# Altium schematic symbol library VC099_V13_20211125_Library.SchLib: 284 symbols (part 20 of 28)
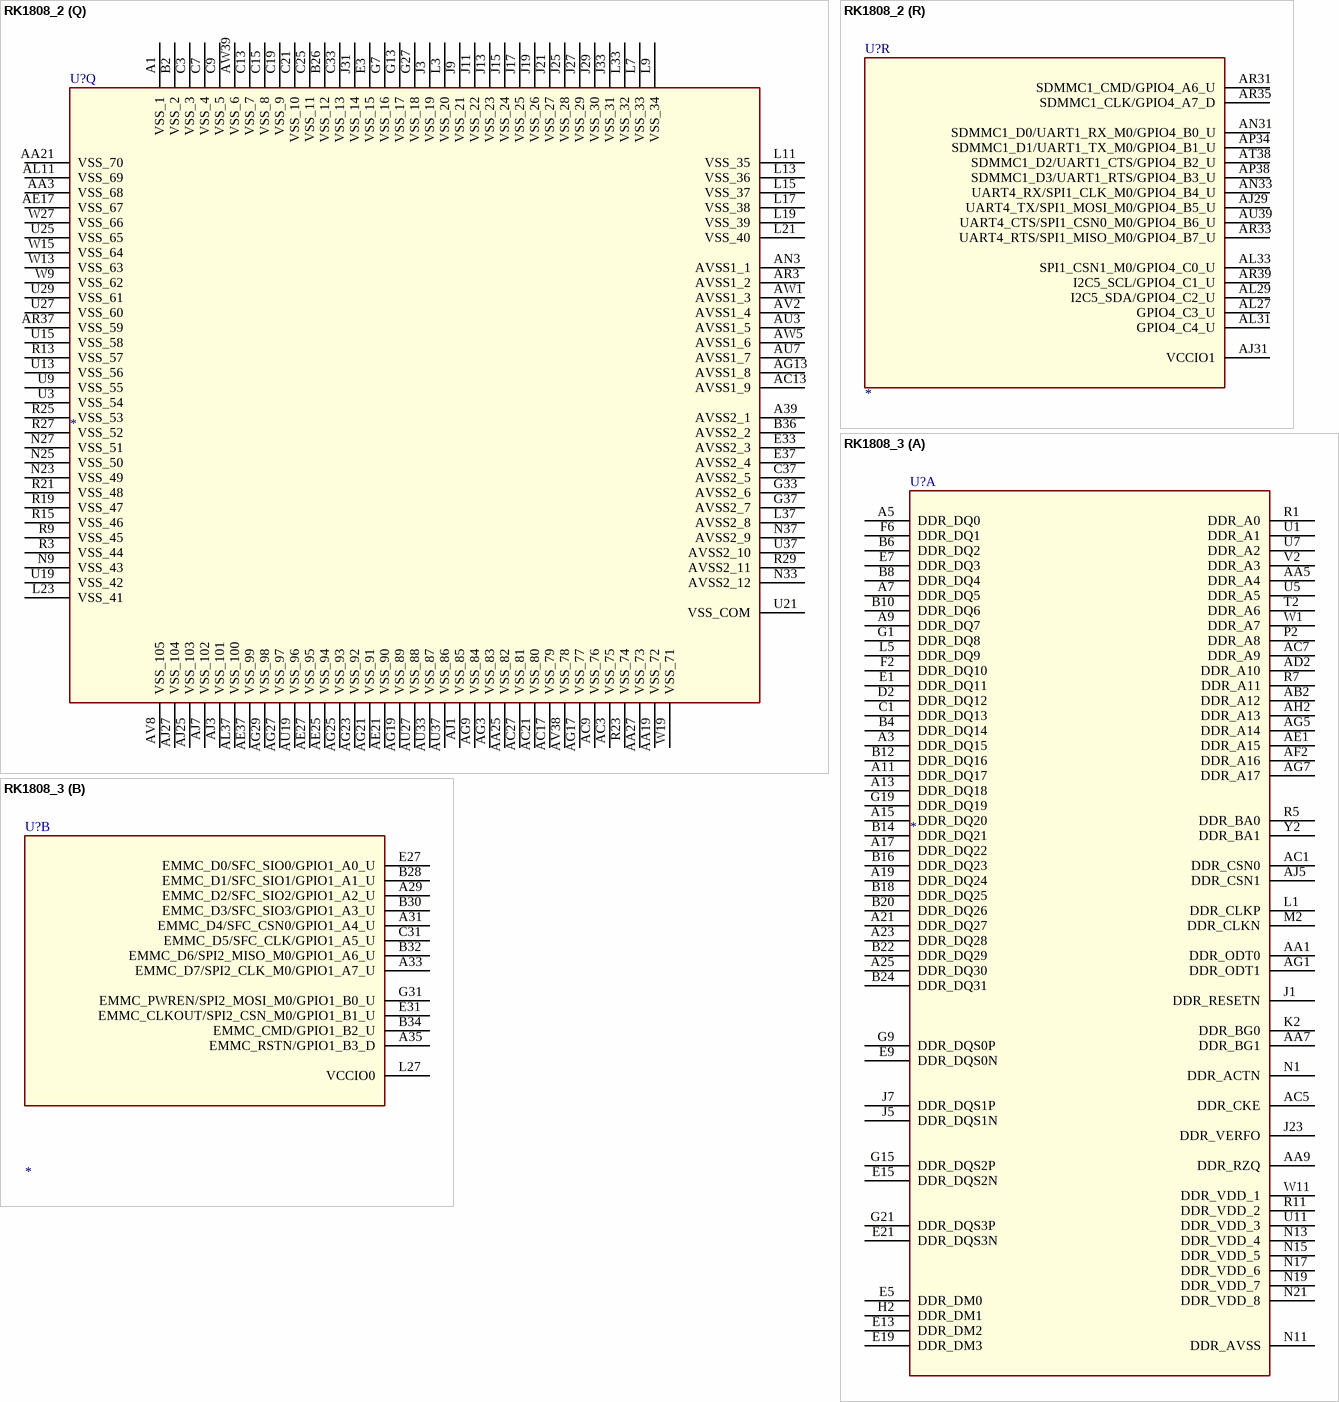
[diagram p382: symbols RK1808_2 to RK1808_3]

## RK1808_2
designator U?
SWAP_INFO: (S1+S2+S3+S4+S5+S6+S7+S8+S9+S10+S11+S12+S13+S14+S15+S16+S17+S18); SPLIT_INST: TRUE
part A pins: A3 DDR_DQ15, A5 DDR_DQ0, A7 DDR_DQ5, A9 DDR_DQ7, A11 DDR_DQ17, A13 DDR_DQ18, A15 DDR_DQ20, A17 DDR_DQ22, A19 DDR_DQ24, A21 DDR_DQ27, A23 DDR_DQ28, A25 DDR_DQ30, AA1 DDR_ODT0, AA5 DDR_A4, AA7 DDR_BG1, AA9 DDR_RZQ, AB2 DDR_A12, AC1 DDR_CSN0, AC5 DDR_CKE, AC7 DDR_A9, AD2 DDR_A10, AE1 DDR_A15, AF2 DDR_A16, AG1 DDR_ODT1, AG5 DDR_A14, AG7 DDR_A17, AH2 DDR_A13, AJ5 DDR_CSN1, B4 DDR_DQ14, B6 DDR_DQ2, B8 DDR_DQ4, B10 DDR_DQ6, B12 DDR_DQ16, B14 DDR_DQ21, B16 DDR_DQ23, B18 DDR_DQ25, B20 DDR_DQ26, B22 DDR_DQ29, B24 DDR_DQ31, C1 DDR_DQ13, D2 DDR_DQ12, E1 DDR_DQ11, E5 DDR_DM0, E7 DDR_DQ3, E9 DDR_DQS0N, E13 DDR_DM2, E15 DDR_DQS2N, E19 DDR_DM3, E21 DDR_DQS3N, F2 DDR_DQ10, F6 DDR_DQ1, G1 DDR_DQ8, G9 DDR_DQS0P, G15 DDR_DQS2P, G19 DDR_DQ19, G21 DDR_DQS3P, H2 DDR_DM1, J1 DDR_RESETN, J5 DDR_DQS1N, J7 DDR_DQS1P, J23 DDR_VERFO, K2 DDR_BG0, L1 DDR_CLKP, L5 DDR_DQ9, M2 DDR_CLKN, N1 DDR_ACTN, N11 DDR_AVSS, N13 DDR_VDD_4, N15 DDR_VDD_5, N17 DDR_VDD_6, N19 DDR_VDD_7, N21 DDR_VDD_8, P2 DDR_A8, R1 DDR_A0, R5 DDR_BA0, R7 DDR_A11, R11 DDR_VDD_2, T2 DDR_A6, U1 DDR_A1, U5 DDR_A5, U7 DDR_A2, U11 DDR_VDD_3, V2 DDR_A3, W1 DDR_A7, W11 DDR_VDD_1, Y2 DDR_BA1
part B pins: A29 EMMC_D2/SFC_SIO2/GPIO1_A2_U, A31 EMMC_D4/SFC_CSN0/GPIO1_A4_U, A33 EMMC_D7/SPI2_CLK_M0/GPIO1_A7_U, A35 EMMC_RSTN/GPIO1_B3_D, B28 EMMC_D1/SFC_SIO1/GPIO1_A1_U, B30 EMMC_D3/SFC_SIO3/GPIO1_A3_U, B32 EMMC_D6/SPI2_MISO_M0/GPIO1_A6_U, B34 EMMC_CMD/GPIO1_B2_U, C31 EMMC_D5/SFC_CLK/GPIO1_A5_U, E27 EMMC_D0/SFC_SIO0/GPIO1_A0_U, E31 EMMC_CLKOUT/SPI2_CSN_M0/GPIO1_B1_U, G31 EMMC_PWREN/SPI2_MOSI_M0/GPIO1_B0_U, L27 VCCIO0
part C pins: AA13 PLL_AVSS, AA15 PLL_AVDD_1V8, AC15 PLL_AVDD_0V8, AG11 PPLL_AVDD_0V8, AG15 OSC_VSS, AJ11 PPLL_AVDD_1V8, AJ15 OSC_VDD_1V8, AJ17 PMU_VDD_0V8, AJ19 PMUIO1_VDD_1V8, AL17 PCIE_PRSTN/GPIO0_A5_U, AN19 PCIE_BUTTONRST/GPIO0_A2_U, AR21 PCIE_WAKE/GPIO0_A7_U, AU21 TSADC_SHUT_M1/GPIO0_A1_Z, AV6 OSC_24M_OUT, AV20 SDMMC0_DETN/PCIE_REQN/GPIO0_A3_U, AV22 NPOR, AW7 OSC_24M_IN, AW17 PMIC_SLEEP/GPIO0_A4_D, AW21 TSADC_SHUT_M0/TSADC_SHUTORG/GPIO0_A6_Z, AW23 REF_CLKO/GPIO0_A0_D, AW25 OSC_BPASS
part D pins: AL15 PMUIO2_VDD, AN13 I2C1_SCL/GPIO0_C0_D, AN15 UART3_CTS/GPIO0_C6_D, AR9 DFTJTAG_TMS, AR13 UART3_RTS/GPIO0_C7_D, AR15 UART0_CTS/GPIO0_B4_U, AU9 EMMC_VOLSEL/GPIO0_B6_U, AU13 I2C0_SDA/GPIO0_B1_U, AU15 UART0_TX/GPIO0_B2_D, AV10 UART0_RTS/TEST_CLK1/GPIO0_B5_U, AV12 I2C1_SDA/GPIO0_C1_D, AV14 PWM0/OTG_DRV/GPIO0_B7_D, AV16 PWM2/GPIO0_C5_D, AV18 PWM1/UART3_TX/GPIO0_C3_D, AW9 UART0_RX/GPIO0_B3_D, AW11 PWM3/UART3_RX/GPIO0_C4_D, AW13 CLKIO_32K/GPIO0_C2_Z, AW15 DFTJTAG_TRSTN, AW19 I2C0_SCL/GPIO0_B0_U
part E pins: AC11 USB_AVDD_1V8, AE9 USB_AVDD_3V3, AE11 USB_AVDD_0V8, AJ9 USB_OTG_ID, AK2 USB_OTG_DM, AL1 USB_OTG_DP, AL9 USB_OTG_VBUS, AM2 USB_HOST_DM, AN1 USB_HOST_DP
part F pins: N31 ADC_AVDD_1V8, U31 ADC_IN1, U33 ADC_IN3, W31 ADC_IN0, W33 ADC_IN2
part G pins: A27 SPI0_MISO/I2C2_SDA_M1/UART1_TX_M1/GPIO1_B5_U, C27 SPI0_MOSI/I2C2_SCL_M1/UART1_RX_M1/GPIO1_B4_U, E25 SPI0_CLK/PWM5/GPIO1_B7_D, G25 SPI0_CSN/PWM4/GPIO1_B6_U, L25 VCCIO5
part H pins: AE31 VCCIO6, AE33 SDMMC0_D3/JTAG_TMS/GPIO4_A5_U, AE35 SDMMC0_D1/UART2_RX_M0/GPIO4_A3_U, AF38 SDMMC0_D2/JTAG_TCK/GPIO4_A4_U, AG39 SDMMC0_D0/UART2_TX_M0/GPIO4_A2_U, AH38 SDMMC0_CLK/GPIO4_A1_D, AJ39 SDMMC0_CMD/TEST_CLK0/GPIO4_A0_U
part I pins: AJ21 CIF_D15/RGMII_TXD0/LCDC_D1/GPIO2_A3_D, AJ23 VCCIO2, AL19 CIF_D14/RGMII_TXD1/LCDC_D0/GPIO2_A2_D, AL21 CIF_D3/RGMII_RXD1/SPI2_CLK_M1/GPIO2_A5_D, AL23 CIF_D11/LCDC_D3/GPIO2_C3_D, AL25 LCDC_D4/GPIO2_C4_D, AN21 CIF_D2/RGMII_RXD0/SPI2_MISO_M1/GPIO2_A4_D, AN25 CIF_D10/RGMII_RXCLK/LCDC_D2/GPIO2_C2_D, AN27 CIF_D1/RGMII_TXCLK/GPIO2_C1_D, AR19 CIF_D13/RGMII_TXEN/LCDC_D7/GPIO2_A1_D, AR25 CIF_D0/CLKOUT_ETHERNET/GPIO2_C0_D, AR27 CIF_CLKOUT/RGMII_CLK/GPIO2_B7_D, AU25 CIF_D5/RGMII_RXDV/SPI2_CSN_M1/GPIO2_A7_D, AU31 CIF_CLKIN/RGMII_RXD3/GPIO2_B6_D, AV24 CIF_D12/RGMII_CRS/LCDC_D6/GPIO2_A0_D, AV26 CIF_D4/RGMII_RXER/SPI2_MOSI_M1/GPIO2_A6_D, AV28 CIF_D9/RGMII_TXD3/LCDC_VSYNC_M0/GPIO2_B3_D, AV30 CIF_VSYNC/RGMII_TXD2/GPIO2_B4_D, AV32 CIF_HREF/RGMII_RXD2/GPIO2_B5_D, AV34 LCDC_DEN/GPIO2_C7_D, AV36 I2C3_SDA/UART2_RX_M1/GPIO2_D1_U, AW27 CIF_D7/RGMII_COL/GPIO2_B1_D, AW29 CIF_D6/RGMII_MDIO/GPIO2_B0_D, AW31 CIF_D8/RGMII_MDC/LCDC_HSYNC_M0/GPIO2_B2_D, AW33 LCDC_CLK/GPIO2_C6_D, AW35 LCDC_D5/GPIO2_C5_D, AW37 I2C3_SCL/UART2_TX_M1/GPIO2_D0_U
part J pins: AE29 VCCIO7, AG31 LCDC_D15/PWM9/SPI1_CSN0_M1/GPIO3_D1_D, AJ33 LCDC_D11/UART6_RX/GPIO3_C5_D, AJ35 LCDC_D14/PWM8/SPI1_MOSI_M1/GPIO3_D0_D, AJ37 LCDC_D17/PWM11/SPI1_CSN1_M1/GPIO3_D3_D, AK38 LCDC_D16/PWM10/SPI1_MISO_M1/GPIO3_D2_D, AL35 LCDC_D13/UART7_RX/SPI1_CLK_M1/GPIO3_C7_D, AL39 LCDC_D10/UART6_TX/GPIO3_C4_D, AM38 LCDC_D9/UART5_RX/I2C4_SDA/GPIO3_C3_D, AN37 LCDC_D8/UART5_TX/I2C4_SCL/GPIO3_C2_D, AN39 LCDC_D12/UART7_TX/GPIO3_C6_D
part K pins: AA29 VCCIO4, AA31 I2S0_SDI3/PDM_SDI3/GPIO3_A5_D, AA39 I2S0_SDI0/PDM_SDI0/GPIO3_C1_D, AB38 I2S0_LRCK_RX/PDM_CLK1/GPIO3_B1_D, AC29 I2S0_SDI1/PDM_SDI1/GPIO3_A7_D, AC31 I2S0_SDO2/I2C2_SCL_M0/LCDC_VSYNC_M1/GPIO3_B3_D, AC33 I2S0_SDO3/ISP_FLASHTRIGIN/LCDC_HSYNC_M1/GPIO3_B2_D, AC35 I2S0_SDO1/I2C2_SDA_M0/GPIO3_B4_D, AC37 I2S0_SDO0/ISP_SHUTTERTRIG/GPIO3_C0_D, AC39 I2S0_MCLK/ISP_SHUTTEREN/GPIO3_B5_D, AD38 I2S0_SCLK_TX/ISP_PRELIGHTTRIG/GPIO3_B7_D, AE39 I2S0_LRCK_TX/ISP_FLASHTRIGOUT/GPIO3_B6_D, W35 I2S0_SDI2/PDM_SDI2/GPIO3_A6_D, Y38 I2S0_SCLK_RX/PDM_CLK0/GPIO3_B0_D
part L pins: U35 I2S1_MCLK/PWM7/GPIO3_A2_D, U39 I2S1_LRCK/GPIO3_A0_D, V38 I2S1_SCLK/PWM6/GPIO3_A1_D, W29 VCCIO3, W37 I2S1_SDO/UART2_TX_M2/GPIO3_A3_D, W39 I2S1_SDI/UART2_RX_M2/GPIO3_A4_D
part M pins: AE13 PICE_VCCD_0V8, AE15 PICE_VCCA_0V8, AJ13 PICE_VDDREF_0V8, AL13 PICE_VCCA_1V8, AN5 PCIE_REFCLKP, AN7 PCIE_REFCLKN, AN9 PCIE_RBIAS, AP2 PCIE_RX0N, AR1 PCIE_RX0P, AR5 PCIE_TX1P, AR7 PCIE_TX1N, AT2 PCIE_TX0N, AU1 PCIE_TX0P, AV4 PCIE_RX1N, AW3 PCIE_RX1P
part N pins: J39 DPHY_RX_D1N, K38 DPHY_RX_D1P, L29 DPHY_RX_AVDD_1V8, L35 DPHY_RX_D0P, L39 DPHY_RX_CLKN, M38 DPHY_RX_CLKP, N35 DPHY_RX_D0N, N39 DPHY_RX_D2N, P38 DPHY_RX_D2P, R31 DPHY_RX_AVDD_0V8, R39 DPHY_RX_D3N, T38 DPHY_RX_D3P
part O pins: A37 DPHY_TX_D0N, B38 DPHY_TX_D0P, C39 DPHY_TX_D1N, D38 DPHY_TX_D1P, E35 DPHY_TX_CLKP, E39 DPHY_TX_D2N, F38 DPHY_TX_D2P, G35 DPHY_TX_CLKN, G39 DPHY_TX_D3N, H38 DPHY_TX_D3P, L31 DPHY_TX_AVDD_1V8, N29 DPHY_TX_AVDD_0V8
part P pins: AA11 EFUSE_VQPS, AA17 LOGIC_VDD_4, AA23 NPU_VDD_5, AC19 ARM_VDD_1, AC23 NPU_VDD_6, AC25 NPU_VDD_4, AE19 ARM_VDD_2, AE23 NPU_VDD_7, R17 LOGIC_VDD_1, U17 LOGIC_VDD_2, U23 NPU_VDD_1, W17 LOGIC_VDD_3, W21 NPU_VDD_COM, W23 NPU_VDD_2, W25 NPU_VDD_3
part Q pins: A1 VSS_1, A39 AVSS2_1, AA3 VSS_68, AA19 VSS_72, AA21 VSS_70, AA25 VSS_82, AA27 VSS_73, AC3 VSS_75, AC9 VSS_76, AC13 AVSS1_9, AC17 VSS_79, AC21 VSS_80, AC27 VSS_81, AE17 VSS_67, AE21 VSS_90, AE25 VSS_94, AE27 VSS_95, AE37 VSS_99, AG3 VSS_83, AG9 VSS_84, AG13 AVSS1_8, AG17 VSS_77, AG19 VSS_89, AG21 VSS_91, AG23 VSS_92, AG25 VSS_93, AG27 VSS_97, AG29 VSS_98, AJ1 VSS_85, AJ3 VSS_101, AJ7 VSS_102, AJ25 VSS_103, AJ27 VSS_104, AL11 VSS_69, AL37 VSS_100, AN3 AVSS1_1, AR3 AVSS1_2, AR37 VSS_59, AU3 AVSS1_5, AU7 AVSS1_7, AU19 VSS_96, AU27 VSS_88, AU33 VSS_87, AU37 VSS_86, AV2 AVSS1_4, AV8 VSS_105, AV38 VSS_78, AW1 AVSS1_3, AW5 AVSS1_6, AW39 VSS_6, B2 VSS_2, B26 VSS_12, B36 AVSS2_2, C3 VSS_3, C7 VSS_4, C9 VSS_5, C13 VSS_7, C15 VSS_8, C19 VSS_9, C21 VSS_10, C25 VSS_11, C33 VSS_13, C37 AVSS2_5, E3 VSS_15, E33 AVSS2_3, E37 AVSS2_4, G7 VSS_16, G13 VSS_17, G27 VSS_18, G33 AVSS2_6, G37 AVSS2_7, J3 VSS_19, J9 VSS_21, J11 VSS_22, J13 VSS_23, J15 VSS_24, J17 VSS_25, J19 VSS_26, J21 VSS_27, J25 VSS_28, J27 VSS_29, J29 VSS_30, J31 VSS_14, J33 VSS_31, L3 VSS_20, L7 VSS_33, L9 VSS_34, L11 VSS_35, L13 VSS_36, L15 VSS_37, L17 VSS_38, L19 VSS_39, L21 VSS_40, L23 VSS_41, L33 VSS_32, L37 AVSS2_8, N9 VSS_43, N23 VSS_49, N25 VSS_50, N27 VSS_51, N33 AVSS2_12, N37 AVSS2_9, R3 VSS_44, R9 VSS_45, R13 VSS_57, R15 VSS_46, R19 VSS_47, R21 VSS_48, R23 VSS_74, R25 VSS_53, R27 VSS_52, R29 AVSS2_11, U3 VSS_54, U9 VSS_55, U13 VSS_56, U15 VSS_58, U19 VSS_42, U21 VSS_COM, U25 VSS_65, U27 VSS_60, U29 VSS_61, U37 AVSS2_10, W9 VSS_62, W13 VSS_63, W15 VSS_64, W19 VSS_71, W27 VSS_66
part R pins: AJ29 UART4_TX/SPI1_MOSI_M0/GPIO4_B5_U, AJ31 VCCIO1, AL27 GPIO4_C3_U, AL29 I2C5_SDA/GPIO4_C2_U, AL31 GPIO4_C4_U, AL33 SPI1_CSN1_M0/GPIO4_C0_U, AN31 SDMMC1_D0/UART1_RX_M0/GPIO4_B0_U, AN33 UART4_RX/SPI1_CLK_M0/GPIO4_B4_U, AP34 SDMMC1_D1/UART1_TX_M0/GPIO4_B1_U, AP38 SDMMC1_D3/UART1_RTS/GPIO4_B3_U, AR31 SDMMC1_CMD/GPIO4_A6_U, AR33 UART4_RTS/SPI1_MISO_M0/GPIO4_B7_U, AR35 SDMMC1_CLK/GPIO4_A7_D, AR39 I2C5_SCL/GPIO4_C1_U, AT38 SDMMC1_D2/UART1_CTS/GPIO4_B2_U, AU39 UART4_CTS/SPI1_CSN0_M0/GPIO4_B6_U

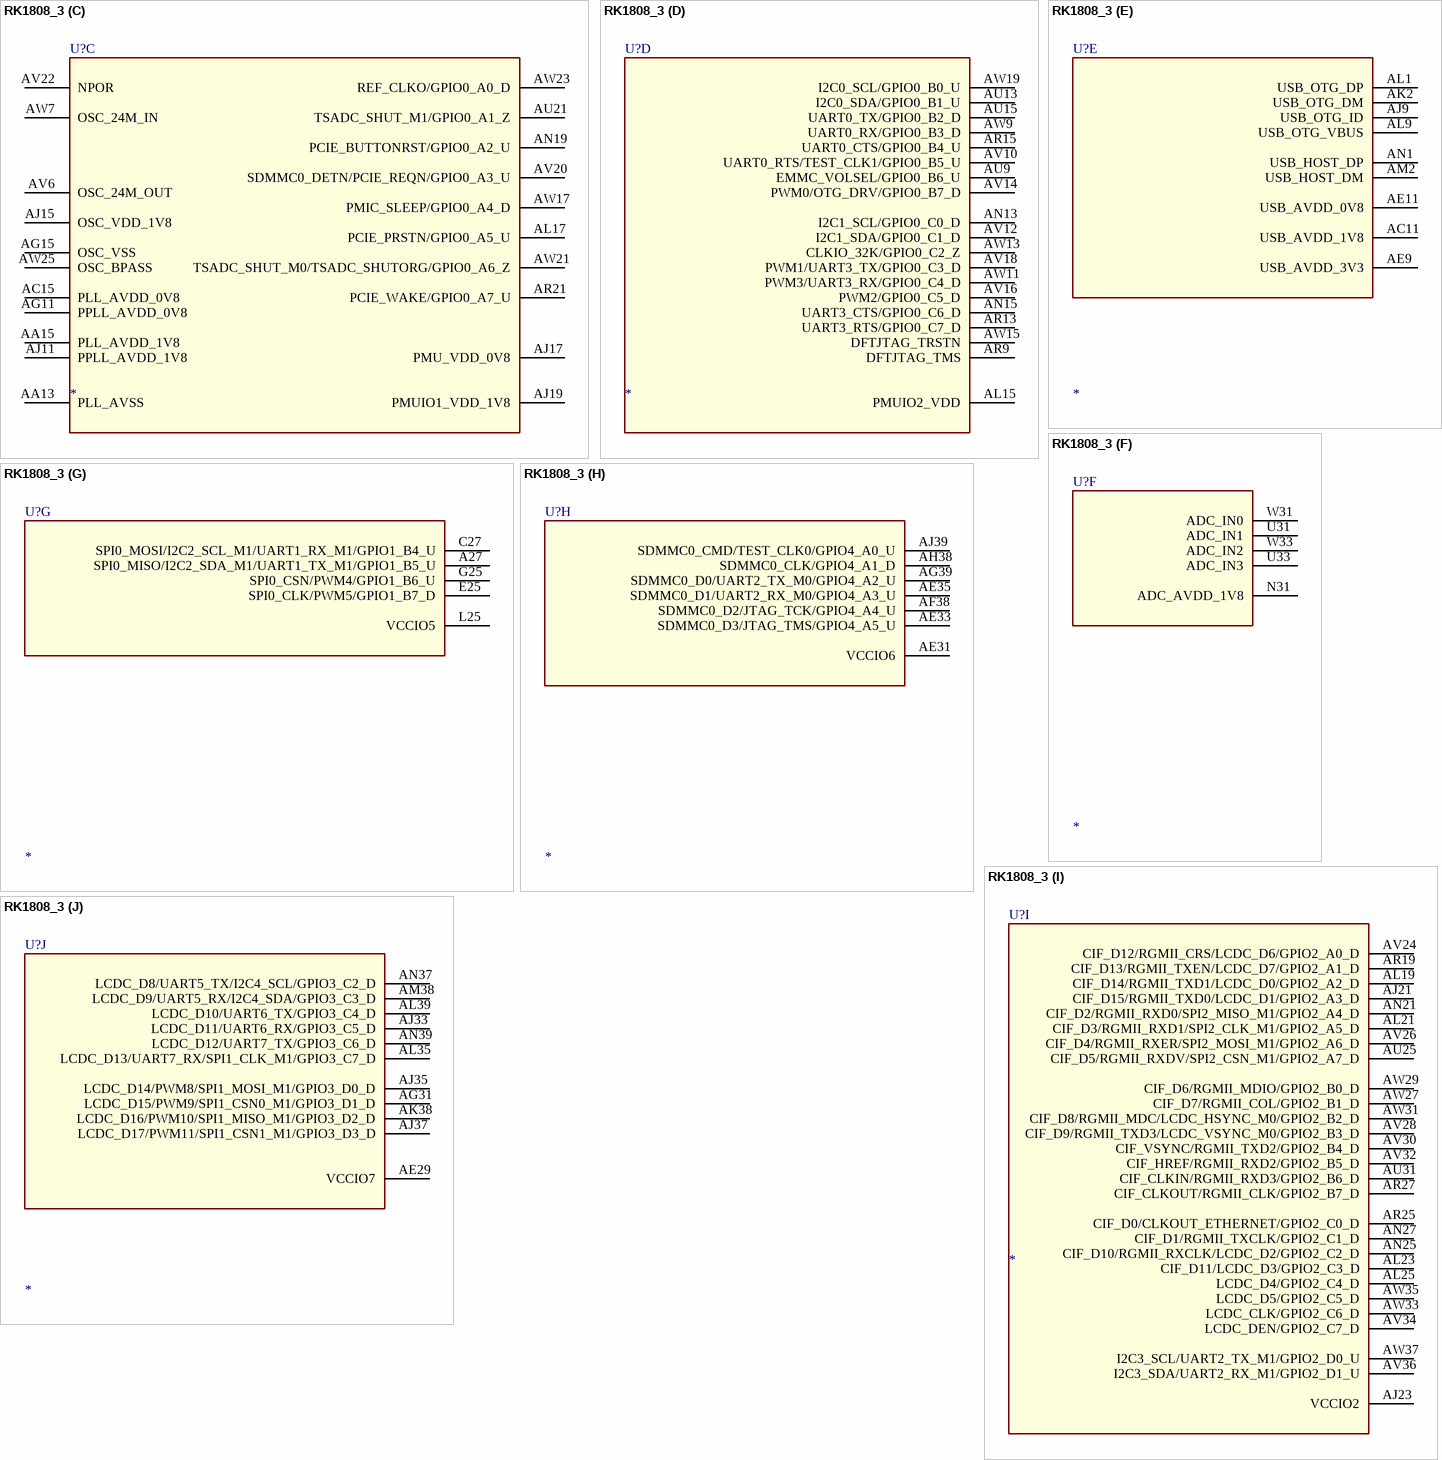
[diagram p268: symbol RK1808_3]

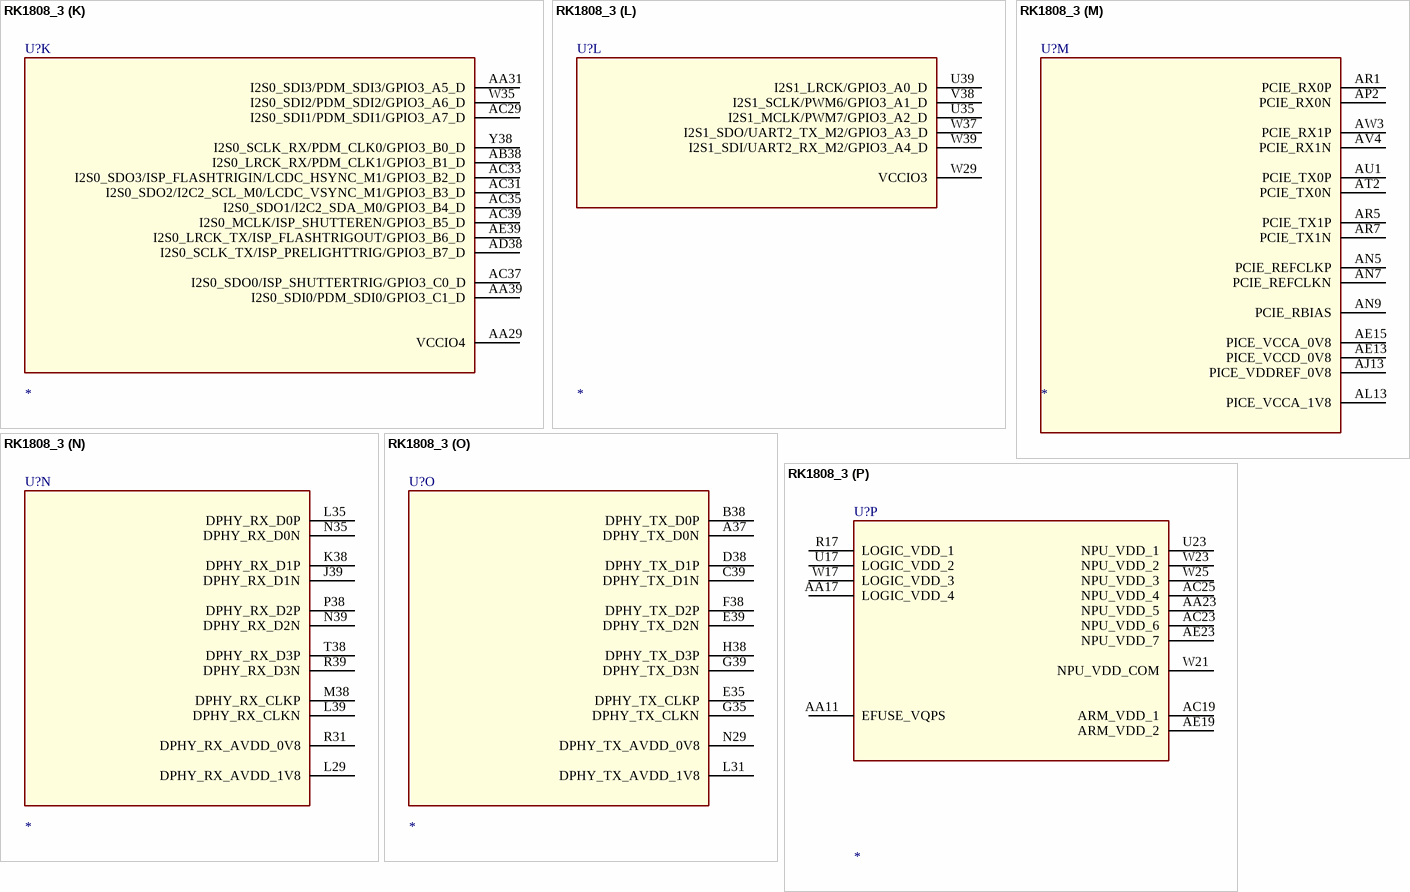
[diagram p269: symbol RK1808_3]

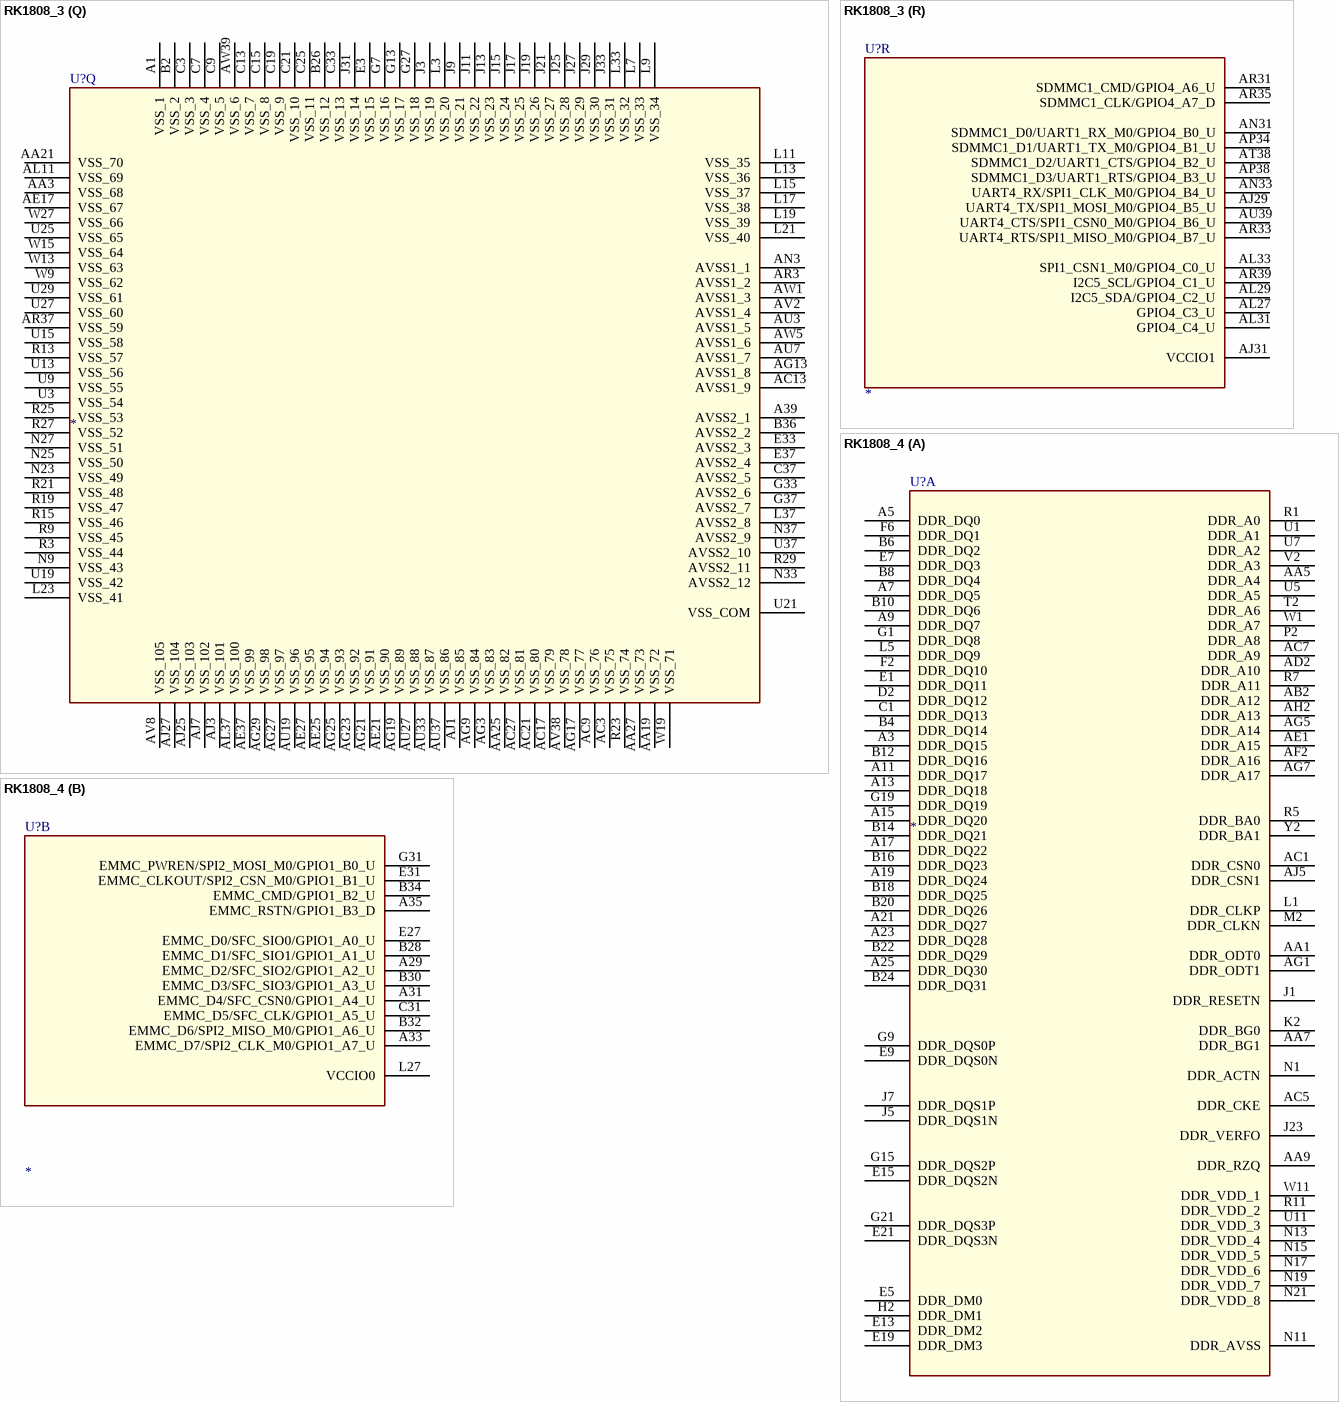
[diagram p270: symbols RK1808_3 to RK1808_4]

## RK1808_3
designator U?
SWAP_INFO: (S1+S2+S3+S4+S5+S6+S7+S8+S9+S10+S11+S12+S13+S14+S15+S16+S17+S18); SPLIT_INST: TRUE
part A pins: A3 DDR_DQ15, A5 DDR_DQ0, A7 DDR_DQ5, A9 DDR_DQ7, A11 DDR_DQ17, A13 DDR_DQ18, A15 DDR_DQ20, A17 DDR_DQ22, A19 DDR_DQ24, A21 DDR_DQ27, A23 DDR_DQ28, A25 DDR_DQ30, AA1 DDR_ODT0, AA5 DDR_A4, AA7 DDR_BG1, AA9 DDR_RZQ, AB2 DDR_A12, AC1 DDR_CSN0, AC5 DDR_CKE, AC7 DDR_A9, AD2 DDR_A10, AE1 DDR_A15, AF2 DDR_A16, AG1 DDR_ODT1, AG5 DDR_A14, AG7 DDR_A17, AH2 DDR_A13, AJ5 DDR_CSN1, B4 DDR_DQ14, B6 DDR_DQ2, B8 DDR_DQ4, B10 DDR_DQ6, B12 DDR_DQ16, B14 DDR_DQ21, B16 DDR_DQ23, B18 DDR_DQ25, B20 DDR_DQ26, B22 DDR_DQ29, B24 DDR_DQ31, C1 DDR_DQ13, D2 DDR_DQ12, E1 DDR_DQ11, E5 DDR_DM0, E7 DDR_DQ3, E9 DDR_DQS0N, E13 DDR_DM2, E15 DDR_DQS2N, E19 DDR_DM3, E21 DDR_DQS3N, F2 DDR_DQ10, F6 DDR_DQ1, G1 DDR_DQ8, G9 DDR_DQS0P, G15 DDR_DQS2P, G19 DDR_DQ19, G21 DDR_DQS3P, H2 DDR_DM1, J1 DDR_RESETN, J5 DDR_DQS1N, J7 DDR_DQS1P, J23 DDR_VERFO, K2 DDR_BG0, L1 DDR_CLKP, L5 DDR_DQ9, M2 DDR_CLKN, N1 DDR_ACTN, N11 DDR_AVSS, N13 DDR_VDD_4, N15 DDR_VDD_5, N17 DDR_VDD_6, N19 DDR_VDD_7, N21 DDR_VDD_8, P2 DDR_A8, R1 DDR_A0, R5 DDR_BA0, R7 DDR_A11, R11 DDR_VDD_2, T2 DDR_A6, U1 DDR_A1, U5 DDR_A5, U7 DDR_A2, U11 DDR_VDD_3, V2 DDR_A3, W1 DDR_A7, W11 DDR_VDD_1, Y2 DDR_BA1
part B pins: A29 EMMC_D2/SFC_SIO2/GPIO1_A2_U, A31 EMMC_D4/SFC_CSN0/GPIO1_A4_U, A33 EMMC_D7/SPI2_CLK_M0/GPIO1_A7_U, A35 EMMC_RSTN/GPIO1_B3_D, B28 EMMC_D1/SFC_SIO1/GPIO1_A1_U, B30 EMMC_D3/SFC_SIO3/GPIO1_A3_U, B32 EMMC_D6/SPI2_MISO_M0/GPIO1_A6_U, B34 EMMC_CMD/GPIO1_B2_U, C31 EMMC_D5/SFC_CLK/GPIO1_A5_U, E27 EMMC_D0/SFC_SIO0/GPIO1_A0_U, E31 EMMC_CLKOUT/SPI2_CSN_M0/GPIO1_B1_U, G31 EMMC_PWREN/SPI2_MOSI_M0/GPIO1_B0_U, L27 VCCIO0
part C pins: AA13 PLL_AVSS, AA15 PLL_AVDD_1V8, AC15 PLL_AVDD_0V8, AG11 PPLL_AVDD_0V8, AG15 OSC_VSS, AJ11 PPLL_AVDD_1V8, AJ15 OSC_VDD_1V8, AJ17 PMU_VDD_0V8, AJ19 PMUIO1_VDD_1V8, AL17 PCIE_PRSTN/GPIO0_A5_U, AN19 PCIE_BUTTONRST/GPIO0_A2_U, AR21 PCIE_WAKE/GPIO0_A7_U, AU21 TSADC_SHUT_M1/GPIO0_A1_Z, AV6 OSC_24M_OUT, AV20 SDMMC0_DETN/PCIE_REQN/GPIO0_A3_U, AV22 NPOR, AW7 OSC_24M_IN, AW17 PMIC_SLEEP/GPIO0_A4_D, AW21 TSADC_SHUT_M0/TSADC_SHUTORG/GPIO0_A6_Z, AW23 REF_CLKO/GPIO0_A0_D, AW25 OSC_BPASS
part D pins: AL15 PMUIO2_VDD, AN13 I2C1_SCL/GPIO0_C0_D, AN15 UART3_CTS/GPIO0_C6_D, AR9 DFTJTAG_TMS, AR13 UART3_RTS/GPIO0_C7_D, AR15 UART0_CTS/GPIO0_B4_U, AU9 EMMC_VOLSEL/GPIO0_B6_U, AU13 I2C0_SDA/GPIO0_B1_U, AU15 UART0_TX/GPIO0_B2_D, AV10 UART0_RTS/TEST_CLK1/GPIO0_B5_U, AV12 I2C1_SDA/GPIO0_C1_D, AV14 PWM0/OTG_DRV/GPIO0_B7_D, AV16 PWM2/GPIO0_C5_D, AV18 PWM1/UART3_TX/GPIO0_C3_D, AW9 UART0_RX/GPIO0_B3_D, AW11 PWM3/UART3_RX/GPIO0_C4_D, AW13 CLKIO_32K/GPIO0_C2_Z, AW15 DFTJTAG_TRSTN, AW19 I2C0_SCL/GPIO0_B0_U
part E pins: AC11 USB_AVDD_1V8, AE9 USB_AVDD_3V3, AE11 USB_AVDD_0V8, AJ9 USB_OTG_ID, AK2 USB_OTG_DM, AL1 USB_OTG_DP, AL9 USB_OTG_VBUS, AM2 USB_HOST_DM, AN1 USB_HOST_DP
part F pins: N31 ADC_AVDD_1V8, U31 ADC_IN1, U33 ADC_IN3, W31 ADC_IN0, W33 ADC_IN2
part G pins: A27 SPI0_MISO/I2C2_SDA_M1/UART1_TX_M1/GPIO1_B5_U, C27 SPI0_MOSI/I2C2_SCL_M1/UART1_RX_M1/GPIO1_B4_U, E25 SPI0_CLK/PWM5/GPIO1_B7_D, G25 SPI0_CSN/PWM4/GPIO1_B6_U, L25 VCCIO5
part H pins: AE31 VCCIO6, AE33 SDMMC0_D3/JTAG_TMS/GPIO4_A5_U, AE35 SDMMC0_D1/UART2_RX_M0/GPIO4_A3_U, AF38 SDMMC0_D2/JTAG_TCK/GPIO4_A4_U, AG39 SDMMC0_D0/UART2_TX_M0/GPIO4_A2_U, AH38 SDMMC0_CLK/GPIO4_A1_D, AJ39 SDMMC0_CMD/TEST_CLK0/GPIO4_A0_U
part I pins: AJ21 CIF_D15/RGMII_TXD0/LCDC_D1/GPIO2_A3_D, AJ23 VCCIO2, AL19 CIF_D14/RGMII_TXD1/LCDC_D0/GPIO2_A2_D, AL21 CIF_D3/RGMII_RXD1/SPI2_CLK_M1/GPIO2_A5_D, AL23 CIF_D11/LCDC_D3/GPIO2_C3_D, AL25 LCDC_D4/GPIO2_C4_D, AN21 CIF_D2/RGMII_RXD0/SPI2_MISO_M1/GPIO2_A4_D, AN25 CIF_D10/RGMII_RXCLK/LCDC_D2/GPIO2_C2_D, AN27 CIF_D1/RGMII_TXCLK/GPIO2_C1_D, AR19 CIF_D13/RGMII_TXEN/LCDC_D7/GPIO2_A1_D, AR25 CIF_D0/CLKOUT_ETHERNET/GPIO2_C0_D, AR27 CIF_CLKOUT/RGMII_CLK/GPIO2_B7_D, AU25 CIF_D5/RGMII_RXDV/SPI2_CSN_M1/GPIO2_A7_D, AU31 CIF_CLKIN/RGMII_RXD3/GPIO2_B6_D, AV24 CIF_D12/RGMII_CRS/LCDC_D6/GPIO2_A0_D, AV26 CIF_D4/RGMII_RXER/SPI2_MOSI_M1/GPIO2_A6_D, AV28 CIF_D9/RGMII_TXD3/LCDC_VSYNC_M0/GPIO2_B3_D, AV30 CIF_VSYNC/RGMII_TXD2/GPIO2_B4_D, AV32 CIF_HREF/RGMII_RXD2/GPIO2_B5_D, AV34 LCDC_DEN/GPIO2_C7_D, AV36 I2C3_SDA/UART2_RX_M1/GPIO2_D1_U, AW27 CIF_D7/RGMII_COL/GPIO2_B1_D, AW29 CIF_D6/RGMII_MDIO/GPIO2_B0_D, AW31 CIF_D8/RGMII_MDC/LCDC_HSYNC_M0/GPIO2_B2_D, AW33 LCDC_CLK/GPIO2_C6_D, AW35 LCDC_D5/GPIO2_C5_D, AW37 I2C3_SCL/UART2_TX_M1/GPIO2_D0_U
part J pins: AE29 VCCIO7, AG31 LCDC_D15/PWM9/SPI1_CSN0_M1/GPIO3_D1_D, AJ33 LCDC_D11/UART6_RX/GPIO3_C5_D, AJ35 LCDC_D14/PWM8/SPI1_MOSI_M1/GPIO3_D0_D, AJ37 LCDC_D17/PWM11/SPI1_CSN1_M1/GPIO3_D3_D, AK38 LCDC_D16/PWM10/SPI1_MISO_M1/GPIO3_D2_D, AL35 LCDC_D13/UART7_RX/SPI1_CLK_M1/GPIO3_C7_D, AL39 LCDC_D10/UART6_TX/GPIO3_C4_D, AM38 LCDC_D9/UART5_RX/I2C4_SDA/GPIO3_C3_D, AN37 LCDC_D8/UART5_TX/I2C4_SCL/GPIO3_C2_D, AN39 LCDC_D12/UART7_TX/GPIO3_C6_D
part K pins: AA29 VCCIO4, AA31 I2S0_SDI3/PDM_SDI3/GPIO3_A5_D, AA39 I2S0_SDI0/PDM_SDI0/GPIO3_C1_D, AB38 I2S0_LRCK_RX/PDM_CLK1/GPIO3_B1_D, AC29 I2S0_SDI1/PDM_SDI1/GPIO3_A7_D, AC31 I2S0_SDO2/I2C2_SCL_M0/LCDC_VSYNC_M1/GPIO3_B3_D, AC33 I2S0_SDO3/ISP_FLASHTRIGIN/LCDC_HSYNC_M1/GPIO3_B2_D, AC35 I2S0_SDO1/I2C2_SDA_M0/GPIO3_B4_D, AC37 I2S0_SDO0/ISP_SHUTTERTRIG/GPIO3_C0_D, AC39 I2S0_MCLK/ISP_SHUTTEREN/GPIO3_B5_D, AD38 I2S0_SCLK_TX/ISP_PRELIGHTTRIG/GPIO3_B7_D, AE39 I2S0_LRCK_TX/ISP_FLASHTRIGOUT/GPIO3_B6_D, W35 I2S0_SDI2/PDM_SDI2/GPIO3_A6_D, Y38 I2S0_SCLK_RX/PDM_CLK0/GPIO3_B0_D
part L pins: U35 I2S1_MCLK/PWM7/GPIO3_A2_D, U39 I2S1_LRCK/GPIO3_A0_D, V38 I2S1_SCLK/PWM6/GPIO3_A1_D, W29 VCCIO3, W37 I2S1_SDO/UART2_TX_M2/GPIO3_A3_D, W39 I2S1_SDI/UART2_RX_M2/GPIO3_A4_D
part M pins: AE13 PICE_VCCD_0V8, AE15 PICE_VCCA_0V8, AJ13 PICE_VDDREF_0V8, AL13 PICE_VCCA_1V8, AN5 PCIE_REFCLKP, AN7 PCIE_REFCLKN, AN9 PCIE_RBIAS, AP2 PCIE_RX0N, AR1 PCIE_RX0P, AR5 PCIE_TX1P, AR7 PCIE_TX1N, AT2 PCIE_TX0N, AU1 PCIE_TX0P, AV4 PCIE_RX1N, AW3 PCIE_RX1P
part N pins: J39 DPHY_RX_D1N, K38 DPHY_RX_D1P, L29 DPHY_RX_AVDD_1V8, L35 DPHY_RX_D0P, L39 DPHY_RX_CLKN, M38 DPHY_RX_CLKP, N35 DPHY_RX_D0N, N39 DPHY_RX_D2N, P38 DPHY_RX_D2P, R31 DPHY_RX_AVDD_0V8, R39 DPHY_RX_D3N, T38 DPHY_RX_D3P
part O pins: A37 DPHY_TX_D0N, B38 DPHY_TX_D0P, C39 DPHY_TX_D1N, D38 DPHY_TX_D1P, E35 DPHY_TX_CLKP, E39 DPHY_TX_D2N, F38 DPHY_TX_D2P, G35 DPHY_TX_CLKN, G39 DPHY_TX_D3N, H38 DPHY_TX_D3P, L31 DPHY_TX_AVDD_1V8, N29 DPHY_TX_AVDD_0V8
part P pins: AA11 EFUSE_VQPS, AA17 LOGIC_VDD_4, AA23 NPU_VDD_5, AC19 ARM_VDD_1, AC23 NPU_VDD_6, AC25 NPU_VDD_4, AE19 ARM_VDD_2, AE23 NPU_VDD_7, R17 LOGIC_VDD_1, U17 LOGIC_VDD_2, U23 NPU_VDD_1, W17 LOGIC_VDD_3, W21 NPU_VDD_COM, W23 NPU_VDD_2, W25 NPU_VDD_3
part Q pins: A1 VSS_1, A39 AVSS2_1, AA3 VSS_68, AA19 VSS_72, AA21 VSS_70, AA25 VSS_82, AA27 VSS_73, AC3 VSS_75, AC9 VSS_76, AC13 AVSS1_9, AC17 VSS_79, AC21 VSS_80, AC27 VSS_81, AE17 VSS_67, AE21 VSS_90, AE25 VSS_94, AE27 VSS_95, AE37 VSS_99, AG3 VSS_83, AG9 VSS_84, AG13 AVSS1_8, AG17 VSS_77, AG19 VSS_89, AG21 VSS_91, AG23 VSS_92, AG25 VSS_93, AG27 VSS_97, AG29 VSS_98, AJ1 VSS_85, AJ3 VSS_101, AJ7 VSS_102, AJ25 VSS_103, AJ27 VSS_104, AL11 VSS_69, AL37 VSS_100, AN3 AVSS1_1, AR3 AVSS1_2, AR37 VSS_59, AU3 AVSS1_5, AU7 AVSS1_7, AU19 VSS_96, AU27 VSS_88, AU33 VSS_87, AU37 VSS_86, AV2 AVSS1_4, AV8 VSS_105, AV38 VSS_78, AW1 AVSS1_3, AW5 AVSS1_6, AW39 VSS_6, B2 VSS_2, B26 VSS_12, B36 AVSS2_2, C3 VSS_3, C7 VSS_4, C9 VSS_5, C13 VSS_7, C15 VSS_8, C19 VSS_9, C21 VSS_10, C25 VSS_11, C33 VSS_13, C37 AVSS2_5, E3 VSS_15, E33 AVSS2_3, E37 AVSS2_4, G7 VSS_16, G13 VSS_17, G27 VSS_18, G33 AVSS2_6, G37 AVSS2_7, J3 VSS_19, J9 VSS_21, J11 VSS_22, J13 VSS_23, J15 VSS_24, J17 VSS_25, J19 VSS_26, J21 VSS_27, J25 VSS_28, J27 VSS_29, J29 VSS_30, J31 VSS_14, J33 VSS_31, L3 VSS_20, L7 VSS_33, L9 VSS_34, L11 VSS_35, L13 VSS_36, L15 VSS_37, L17 VSS_38, L19 VSS_39, L21 VSS_40, L23 VSS_41, L33 VSS_32, L37 AVSS2_8, N9 VSS_43, N23 VSS_49, N25 VSS_50, N27 VSS_51, N33 AVSS2_12, N37 AVSS2_9, R3 VSS_44, R9 VSS_45, R13 VSS_57, R15 VSS_46, R19 VSS_47, R21 VSS_48, R23 VSS_74, R25 VSS_53, R27 VSS_52, R29 AVSS2_11, U3 VSS_54, U9 VSS_55, U13 VSS_56, U15 VSS_58, U19 VSS_42, U21 VSS_COM, U25 VSS_65, U27 VSS_60, U29 VSS_61, U37 AVSS2_10, W9 VSS_62, W13 VSS_63, W15 VSS_64, W19 VSS_71, W27 VSS_66
part R pins: AJ29 UART4_TX/SPI1_MOSI_M0/GPIO4_B5_U, AJ31 VCCIO1, AL27 GPIO4_C3_U, AL29 I2C5_SDA/GPIO4_C2_U, AL31 GPIO4_C4_U, AL33 SPI1_CSN1_M0/GPIO4_C0_U, AN31 SDMMC1_D0/UART1_RX_M0/GPIO4_B0_U, AN33 UART4_RX/SPI1_CLK_M0/GPIO4_B4_U, AP34 SDMMC1_D1/UART1_TX_M0/GPIO4_B1_U, AP38 SDMMC1_D3/UART1_RTS/GPIO4_B3_U, AR31 SDMMC1_CMD/GPIO4_A6_U, AR33 UART4_RTS/SPI1_MISO_M0/GPIO4_B7_U, AR35 SDMMC1_CLK/GPIO4_A7_D, AR39 I2C5_SCL/GPIO4_C1_U, AT38 SDMMC1_D2/UART1_CTS/GPIO4_B2_U, AU39 UART4_CTS/SPI1_CSN0_M0/GPIO4_B6_U

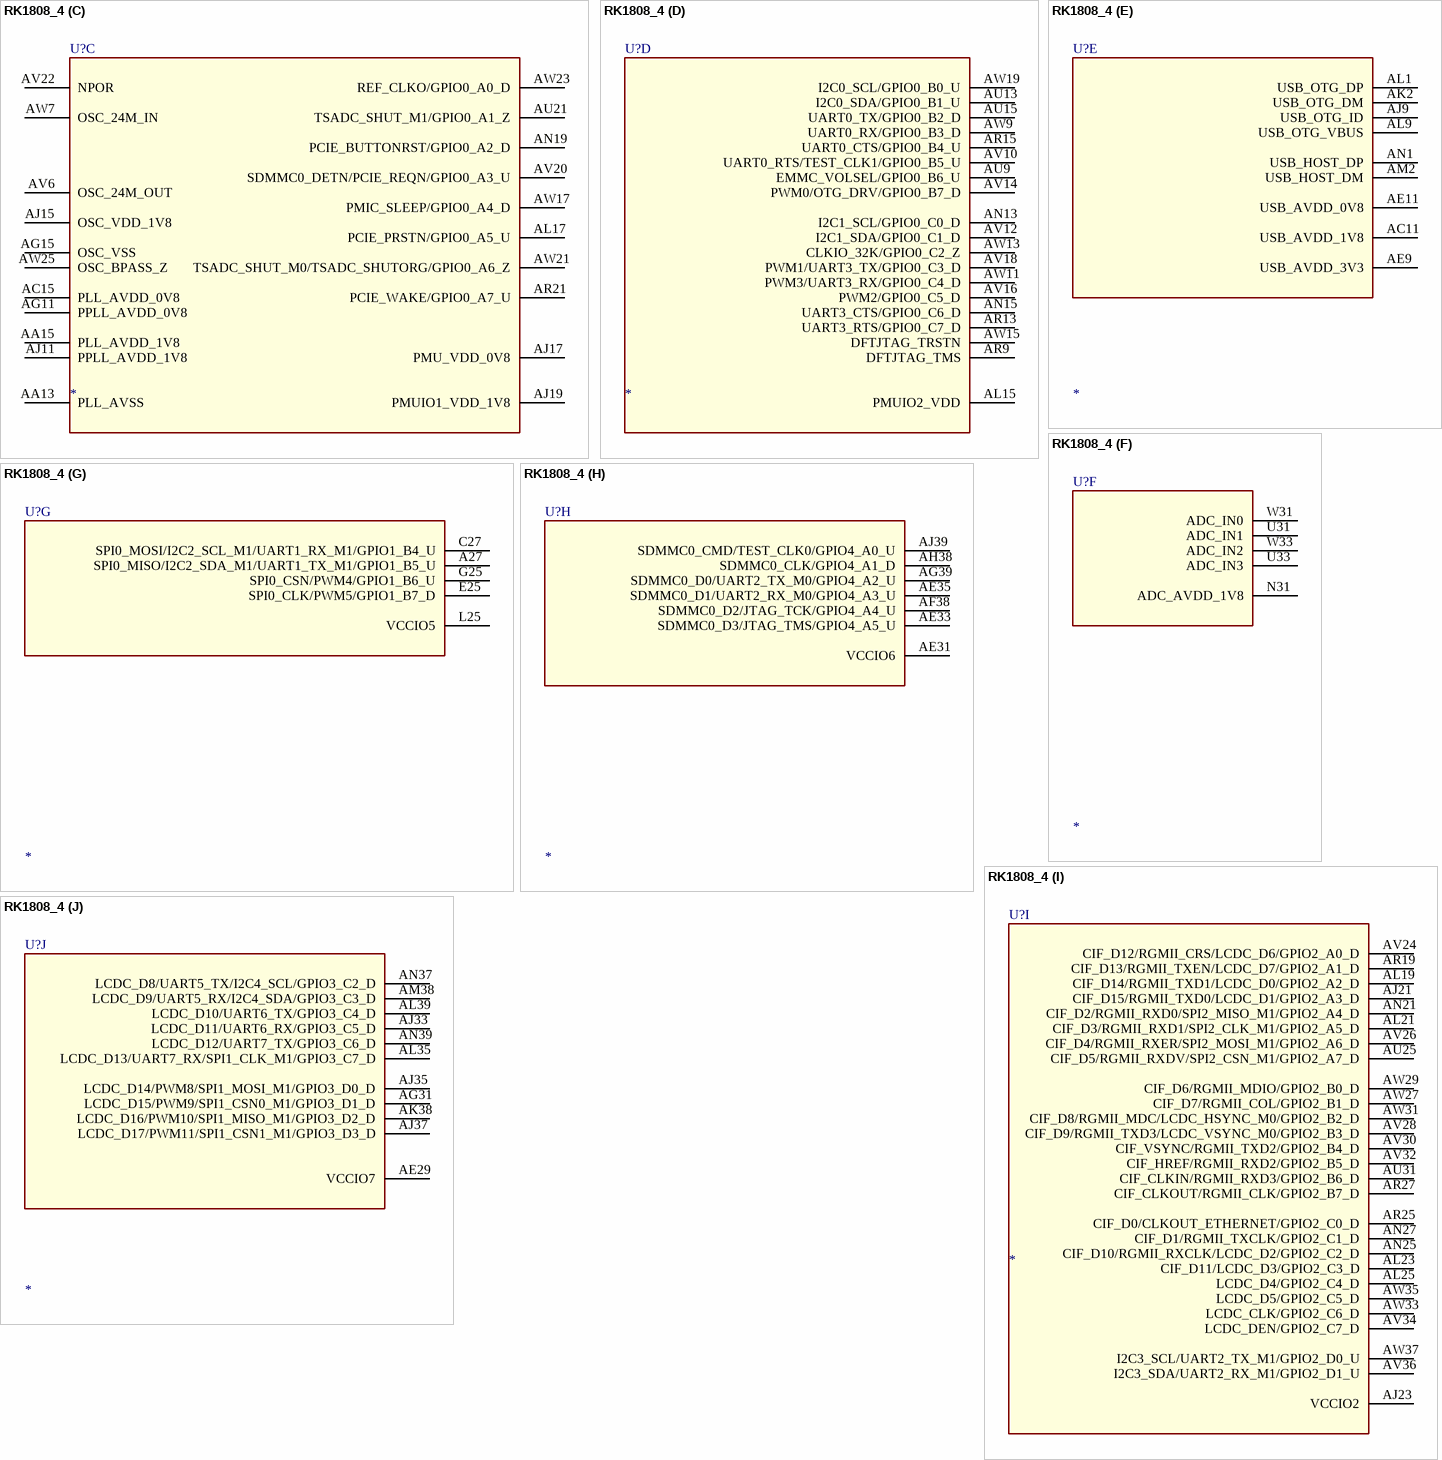
[diagram p271: symbol RK1808_4]

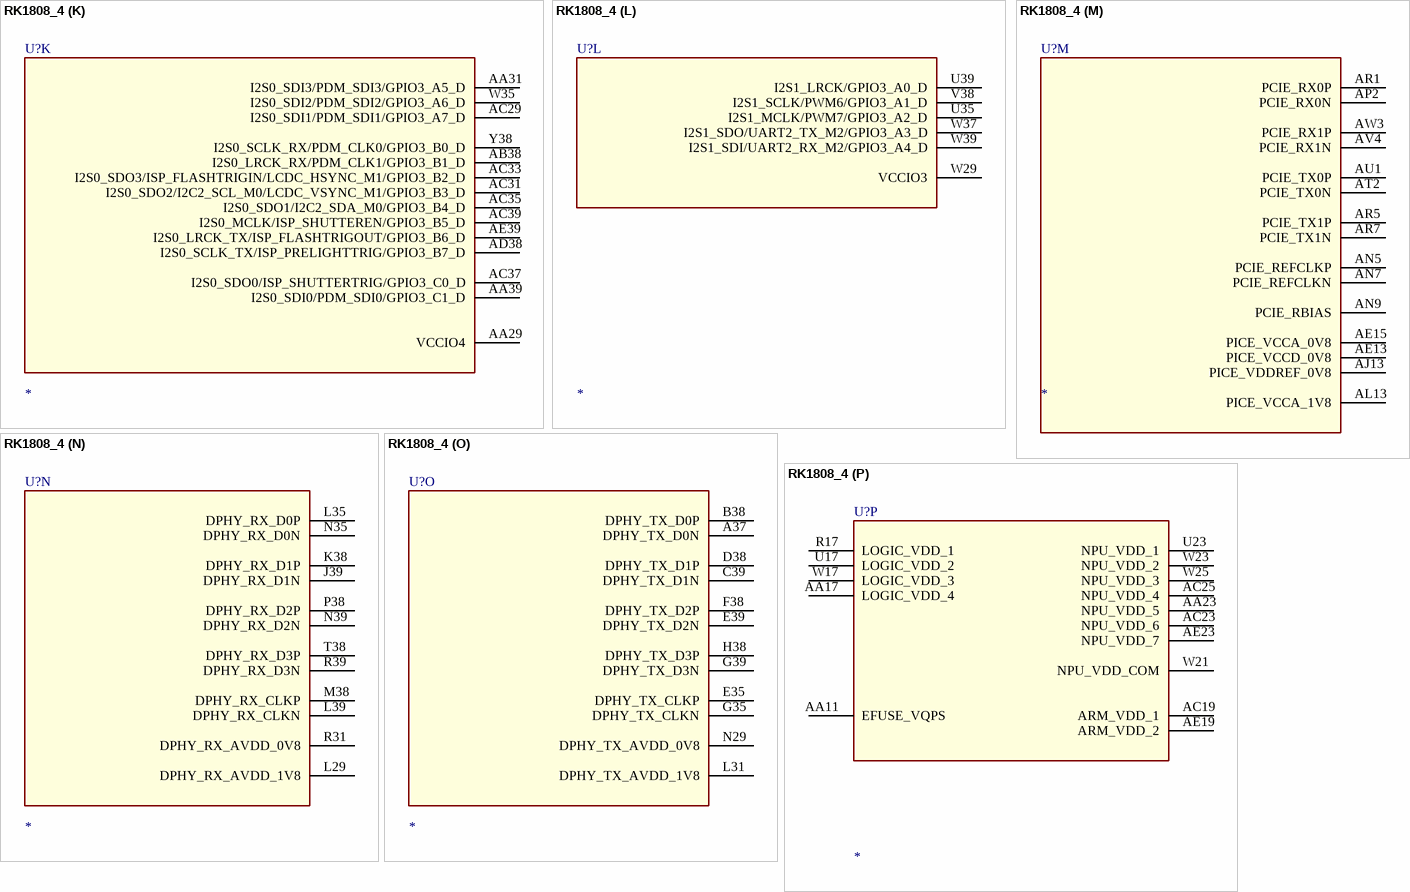
[diagram p272: symbol RK1808_4]

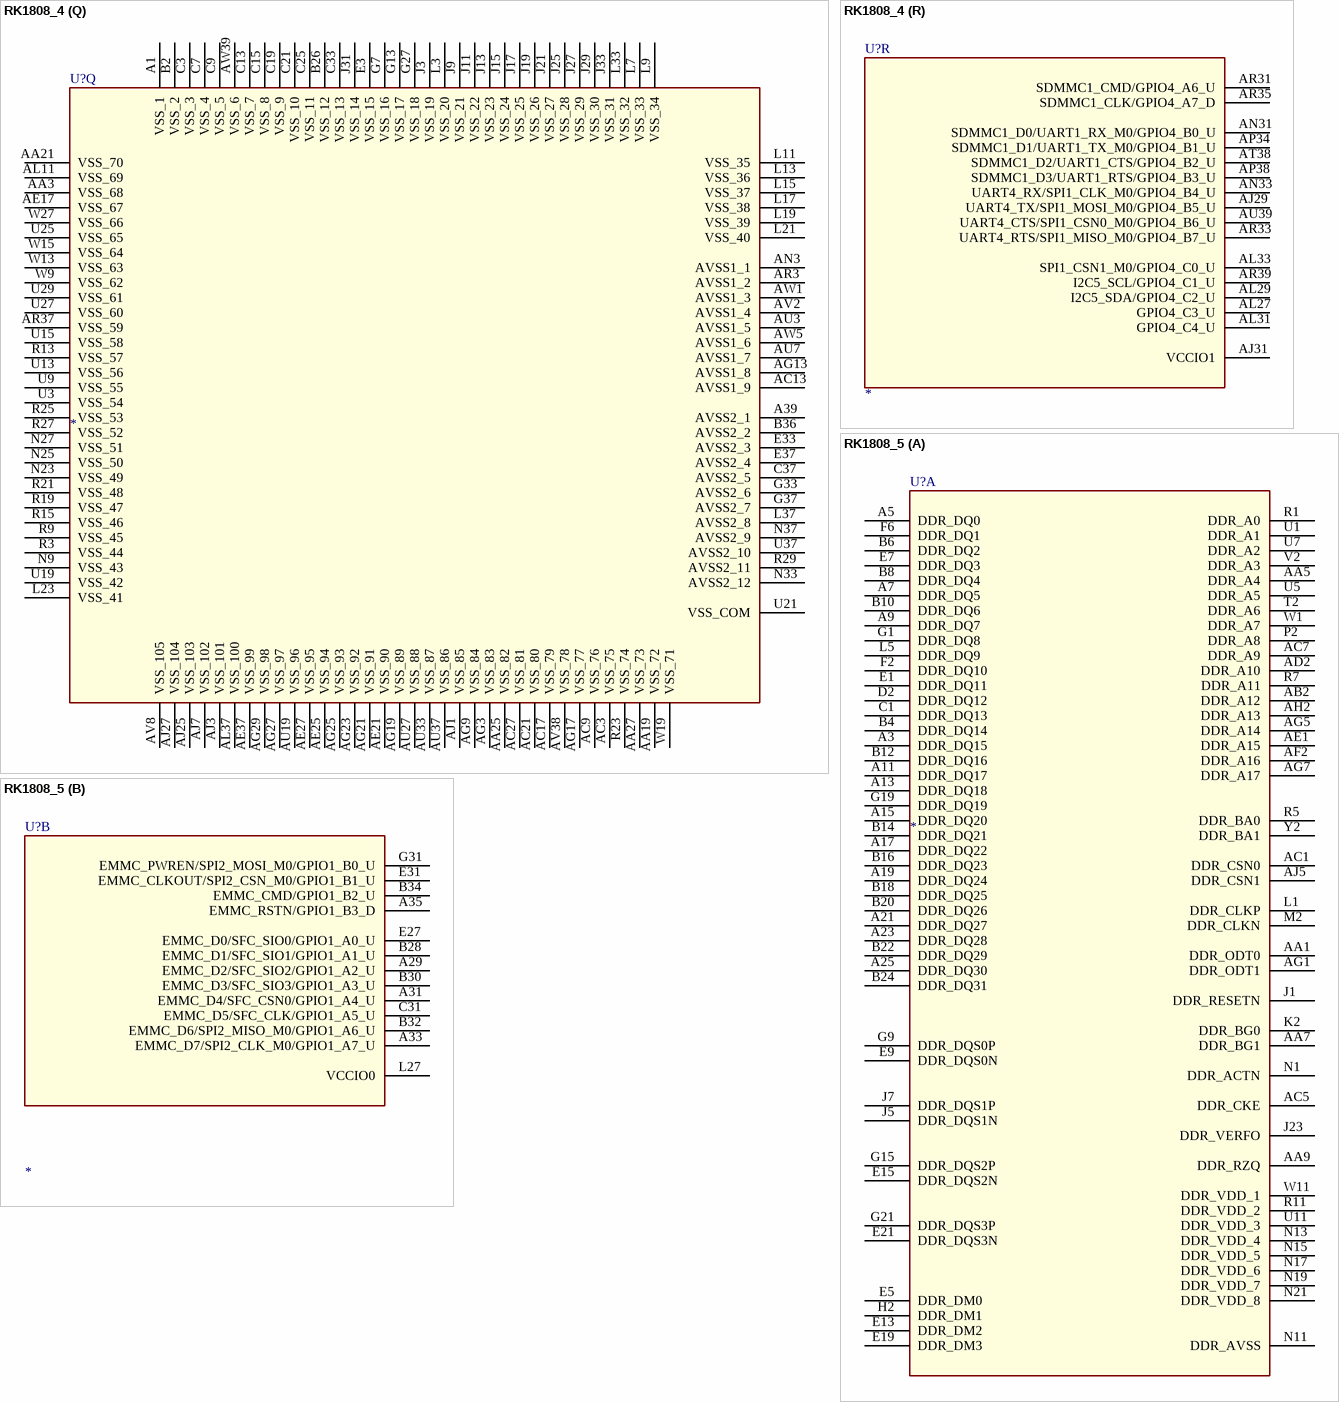
[diagram p273: symbols RK1808_4 to RK1808_5]

## RK1808_4
designator U?
SWAP_INFO: (S1+S2+S3+S4+S5+S6+S7+S8+S9+S10+S11+S12+S13+S14+S15+S16+S17+S18); SPLIT_INST: TRUE
part A pins: A3 DDR_DQ15, A5 DDR_DQ0, A7 DDR_DQ5, A9 DDR_DQ7, A11 DDR_DQ17, A13 DDR_DQ18, A15 DDR_DQ20, A17 DDR_DQ22, A19 DDR_DQ24, A21 DDR_DQ27, A23 DDR_DQ28, A25 DDR_DQ30, AA1 DDR_ODT0, AA5 DDR_A4, AA7 DDR_BG1, AA9 DDR_RZQ, AB2 DDR_A12, AC1 DDR_CSN0, AC5 DDR_CKE, AC7 DDR_A9, AD2 DDR_A10, AE1 DDR_A15, AF2 DDR_A16, AG1 DDR_ODT1, AG5 DDR_A14, AG7 DDR_A17, AH2 DDR_A13, AJ5 DDR_CSN1, B4 DDR_DQ14, B6 DDR_DQ2, B8 DDR_DQ4, B10 DDR_DQ6, B12 DDR_DQ16, B14 DDR_DQ21, B16 DDR_DQ23, B18 DDR_DQ25, B20 DDR_DQ26, B22 DDR_DQ29, B24 DDR_DQ31, C1 DDR_DQ13, D2 DDR_DQ12, E1 DDR_DQ11, E5 DDR_DM0, E7 DDR_DQ3, E9 DDR_DQS0N, E13 DDR_DM2, E15 DDR_DQS2N, E19 DDR_DM3, E21 DDR_DQS3N, F2 DDR_DQ10, F6 DDR_DQ1, G1 DDR_DQ8, G9 DDR_DQS0P, G15 DDR_DQS2P, G19 DDR_DQ19, G21 DDR_DQS3P, H2 DDR_DM1, J1 DDR_RESETN, J5 DDR_DQS1N, J7 DDR_DQS1P, J23 DDR_VERFO, K2 DDR_BG0, L1 DDR_CLKP, L5 DDR_DQ9, M2 DDR_CLKN, N1 DDR_ACTN, N11 DDR_AVSS, N13 DDR_VDD_4, N15 DDR_VDD_5, N17 DDR_VDD_6, N19 DDR_VDD_7, N21 DDR_VDD_8, P2 DDR_A8, R1 DDR_A0, R5 DDR_BA0, R7 DDR_A11, R11 DDR_VDD_2, T2 DDR_A6, U1 DDR_A1, U5 DDR_A5, U7 DDR_A2, U11 DDR_VDD_3, V2 DDR_A3, W1 DDR_A7, W11 DDR_VDD_1, Y2 DDR_BA1
part B pins: A29 EMMC_D2/SFC_SIO2/GPIO1_A2_U, A31 EMMC_D4/SFC_CSN0/GPIO1_A4_U, A33 EMMC_D7/SPI2_CLK_M0/GPIO1_A7_U, A35 EMMC_RSTN/GPIO1_B3_D, B28 EMMC_D1/SFC_SIO1/GPIO1_A1_U, B30 EMMC_D3/SFC_SIO3/GPIO1_A3_U, B32 EMMC_D6/SPI2_MISO_M0/GPIO1_A6_U, B34 EMMC_CMD/GPIO1_B2_U, C31 EMMC_D5/SFC_CLK/GPIO1_A5_U, E27 EMMC_D0/SFC_SIO0/GPIO1_A0_U, E31 EMMC_CLKOUT/SPI2_CSN_M0/GPIO1_B1_U, G31 EMMC_PWREN/SPI2_MOSI_M0/GPIO1_B0_U, L27 VCCIO0
part C pins: AA13 PLL_AVSS, AA15 PLL_AVDD_1V8, AC15 PLL_AVDD_0V8, AG11 PPLL_AVDD_0V8, AG15 OSC_VSS, AJ11 PPLL_AVDD_1V8, AJ15 OSC_VDD_1V8, AJ17 PMU_VDD_0V8, AJ19 PMUIO1_VDD_1V8, AL17 PCIE_PRSTN/GPIO0_A5_U, AN19 PCIE_BUTTONRST/GPIO0_A2_D, AR21 PCIE_WAKE/GPIO0_A7_U, AU21 TSADC_SHUT_M1/GPIO0_A1_Z, AV6 OSC_24M_OUT, AV20 SDMMC0_DETN/PCIE_REQN/GPIO0_A3_U, AV22 NPOR, AW7 OSC_24M_IN, AW17 PMIC_SLEEP/GPIO0_A4_D, AW21 TSADC_SHUT_M0/TSADC_SHUTORG/GPIO0_A6_Z, AW23 REF_CLKO/GPIO0_A0_D, AW25 OSC_BPASS_Z
part D pins: AL15 PMUIO2_VDD, AN13 I2C1_SCL/GPIO0_C0_D, AN15 UART3_CTS/GPIO0_C6_D, AR9 DFTJTAG_TMS, AR13 UART3_RTS/GPIO0_C7_D, AR15 UART0_CTS/GPIO0_B4_U, AU9 EMMC_VOLSEL/GPIO0_B6_U, AU13 I2C0_SDA/GPIO0_B1_U, AU15 UART0_TX/GPIO0_B2_D, AV10 UART0_RTS/TEST_CLK1/GPIO0_B5_U, AV12 I2C1_SDA/GPIO0_C1_D, AV14 PWM0/OTG_DRV/GPIO0_B7_D, AV16 PWM2/GPIO0_C5_D, AV18 PWM1/UART3_TX/GPIO0_C3_D, AW9 UART0_RX/GPIO0_B3_D, AW11 PWM3/UART3_RX/GPIO0_C4_D, AW13 CLKIO_32K/GPIO0_C2_Z, AW15 DFTJTAG_TRSTN, AW19 I2C0_SCL/GPIO0_B0_U
part E pins: AC11 USB_AVDD_1V8, AE9 USB_AVDD_3V3, AE11 USB_AVDD_0V8, AJ9 USB_OTG_ID, AK2 USB_OTG_DM, AL1 USB_OTG_DP, AL9 USB_OTG_VBUS, AM2 USB_HOST_DM, AN1 USB_HOST_DP
part F pins: N31 ADC_AVDD_1V8, U31 ADC_IN1, U33 ADC_IN3, W31 ADC_IN0, W33 ADC_IN2
part G pins: A27 SPI0_MISO/I2C2_SDA_M1/UART1_TX_M1/GPIO1_B5_U, C27 SPI0_MOSI/I2C2_SCL_M1/UART1_RX_M1/GPIO1_B4_U, E25 SPI0_CLK/PWM5/GPIO1_B7_D, G25 SPI0_CSN/PWM4/GPIO1_B6_U, L25 VCCIO5
part H pins: AE31 VCCIO6, AE33 SDMMC0_D3/JTAG_TMS/GPIO4_A5_U, AE35 SDMMC0_D1/UART2_RX_M0/GPIO4_A3_U, AF38 SDMMC0_D2/JTAG_TCK/GPIO4_A4_U, AG39 SDMMC0_D0/UART2_TX_M0/GPIO4_A2_U, AH38 SDMMC0_CLK/GPIO4_A1_D, AJ39 SDMMC0_CMD/TEST_CLK0/GPIO4_A0_U
part I pins: AJ21 CIF_D15/RGMII_TXD0/LCDC_D1/GPIO2_A3_D, AJ23 VCCIO2, AL19 CIF_D14/RGMII_TXD1/LCDC_D0/GPIO2_A2_D, AL21 CIF_D3/RGMII_RXD1/SPI2_CLK_M1/GPIO2_A5_D, AL23 CIF_D11/LCDC_D3/GPIO2_C3_D, AL25 LCDC_D4/GPIO2_C4_D, AN21 CIF_D2/RGMII_RXD0/SPI2_MISO_M1/GPIO2_A4_D, AN25 CIF_D10/RGMII_RXCLK/LCDC_D2/GPIO2_C2_D, AN27 CIF_D1/RGMII_TXCLK/GPIO2_C1_D, AR19 CIF_D13/RGMII_TXEN/LCDC_D7/GPIO2_A1_D, AR25 CIF_D0/CLKOUT_ETHERNET/GPIO2_C0_D, AR27 CIF_CLKOUT/RGMII_CLK/GPIO2_B7_D, AU25 CIF_D5/RGMII_RXDV/SPI2_CSN_M1/GPIO2_A7_D, AU31 CIF_CLKIN/RGMII_RXD3/GPIO2_B6_D, AV24 CIF_D12/RGMII_CRS/LCDC_D6/GPIO2_A0_D, AV26 CIF_D4/RGMII_RXER/SPI2_MOSI_M1/GPIO2_A6_D, AV28 CIF_D9/RGMII_TXD3/LCDC_VSYNC_M0/GPIO2_B3_D, AV30 CIF_VSYNC/RGMII_TXD2/GPIO2_B4_D, AV32 CIF_HREF/RGMII_RXD2/GPIO2_B5_D, AV34 LCDC_DEN/GPIO2_C7_D, AV36 I2C3_SDA/UART2_RX_M1/GPIO2_D1_U, AW27 CIF_D7/RGMII_COL/GPIO2_B1_D, AW29 CIF_D6/RGMII_MDIO/GPIO2_B0_D, AW31 CIF_D8/RGMII_MDC/LCDC_HSYNC_M0/GPIO2_B2_D, AW33 LCDC_CLK/GPIO2_C6_D, AW35 LCDC_D5/GPIO2_C5_D, AW37 I2C3_SCL/UART2_TX_M1/GPIO2_D0_U
part J pins: AE29 VCCIO7, AG31 LCDC_D15/PWM9/SPI1_CSN0_M1/GPIO3_D1_D, AJ33 LCDC_D11/UART6_RX/GPIO3_C5_D, AJ35 LCDC_D14/PWM8/SPI1_MOSI_M1/GPIO3_D0_D, AJ37 LCDC_D17/PWM11/SPI1_CSN1_M1/GPIO3_D3_D, AK38 LCDC_D16/PWM10/SPI1_MISO_M1/GPIO3_D2_D, AL35 LCDC_D13/UART7_RX/SPI1_CLK_M1/GPIO3_C7_D, AL39 LCDC_D10/UART6_TX/GPIO3_C4_D, AM38 LCDC_D9/UART5_RX/I2C4_SDA/GPIO3_C3_D, AN37 LCDC_D8/UART5_TX/I2C4_SCL/GPIO3_C2_D, AN39 LCDC_D12/UART7_TX/GPIO3_C6_D
part K pins: AA29 VCCIO4, AA31 I2S0_SDI3/PDM_SDI3/GPIO3_A5_D, AA39 I2S0_SDI0/PDM_SDI0/GPIO3_C1_D, AB38 I2S0_LRCK_RX/PDM_CLK1/GPIO3_B1_D, AC29 I2S0_SDI1/PDM_SDI1/GPIO3_A7_D, AC31 I2S0_SDO2/I2C2_SCL_M0/LCDC_VSYNC_M1/GPIO3_B3_D, AC33 I2S0_SDO3/ISP_FLASHTRIGIN/LCDC_HSYNC_M1/GPIO3_B2_D, AC35 I2S0_SDO1/I2C2_SDA_M0/GPIO3_B4_D, AC37 I2S0_SDO0/ISP_SHUTTERTRIG/GPIO3_C0_D, AC39 I2S0_MCLK/ISP_SHUTTEREN/GPIO3_B5_D, AD38 I2S0_SCLK_TX/ISP_PRELIGHTTRIG/GPIO3_B7_D, AE39 I2S0_LRCK_TX/ISP_FLASHTRIGOUT/GPIO3_B6_D, W35 I2S0_SDI2/PDM_SDI2/GPIO3_A6_D, Y38 I2S0_SCLK_RX/PDM_CLK0/GPIO3_B0_D
part L pins: U35 I2S1_MCLK/PWM7/GPIO3_A2_D, U39 I2S1_LRCK/GPIO3_A0_D, V38 I2S1_SCLK/PWM6/GPIO3_A1_D, W29 VCCIO3, W37 I2S1_SDO/UART2_TX_M2/GPIO3_A3_D, W39 I2S1_SDI/UART2_RX_M2/GPIO3_A4_D
part M pins: AE13 PICE_VCCD_0V8, AE15 PICE_VCCA_0V8, AJ13 PICE_VDDREF_0V8, AL13 PICE_VCCA_1V8, AN5 PCIE_REFCLKP, AN7 PCIE_REFCLKN, AN9 PCIE_RBIAS, AP2 PCIE_RX0N, AR1 PCIE_RX0P, AR5 PCIE_TX1P, AR7 PCIE_TX1N, AT2 PCIE_TX0N, AU1 PCIE_TX0P, AV4 PCIE_RX1N, AW3 PCIE_RX1P
part N pins: J39 DPHY_RX_D1N, K38 DPHY_RX_D1P, L29 DPHY_RX_AVDD_1V8, L35 DPHY_RX_D0P, L39 DPHY_RX_CLKN, M38 DPHY_RX_CLKP, N35 DPHY_RX_D0N, N39 DPHY_RX_D2N, P38 DPHY_RX_D2P, R31 DPHY_RX_AVDD_0V8, R39 DPHY_RX_D3N, T38 DPHY_RX_D3P
part O pins: A37 DPHY_TX_D0N, B38 DPHY_TX_D0P, C39 DPHY_TX_D1N, D38 DPHY_TX_D1P, E35 DPHY_TX_CLKP, E39 DPHY_TX_D2N, F38 DPHY_TX_D2P, G35 DPHY_TX_CLKN, G39 DPHY_TX_D3N, H38 DPHY_TX_D3P, L31 DPHY_TX_AVDD_1V8, N29 DPHY_TX_AVDD_0V8
part P pins: AA11 EFUSE_VQPS, AA17 LOGIC_VDD_4, AA23 NPU_VDD_5, AC19 ARM_VDD_1, AC23 NPU_VDD_6, AC25 NPU_VDD_4, AE19 ARM_VDD_2, AE23 NPU_VDD_7, R17 LOGIC_VDD_1, U17 LOGIC_VDD_2, U23 NPU_VDD_1, W17 LOGIC_VDD_3, W21 NPU_VDD_COM, W23 NPU_VDD_2, W25 NPU_VDD_3
part Q pins: A1 VSS_1, A39 AVSS2_1, AA3 VSS_68, AA19 VSS_72, AA21 VSS_70, AA25 VSS_82, AA27 VSS_73, AC3 VSS_75, AC9 VSS_76, AC13 AVSS1_9, AC17 VSS_79, AC21 VSS_80, AC27 VSS_81, AE17 VSS_67, AE21 VSS_90, AE25 VSS_94, AE27 VSS_95, AE37 VSS_99, AG3 VSS_83, AG9 VSS_84, AG13 AVSS1_8, AG17 VSS_77, AG19 VSS_89, AG21 VSS_91, AG23 VSS_92, AG25 VSS_93, AG27 VSS_97, AG29 VSS_98, AJ1 VSS_85, AJ3 VSS_101, AJ7 VSS_102, AJ25 VSS_103, AJ27 VSS_104, AL11 VSS_69, AL37 VSS_100, AN3 AVSS1_1, AR3 AVSS1_2, AR37 VSS_59, AU3 AVSS1_5, AU7 AVSS1_7, AU19 VSS_96, AU27 VSS_88, AU33 VSS_87, AU37 VSS_86, AV2 AVSS1_4, AV8 VSS_105, AV38 VSS_78, AW1 AVSS1_3, AW5 AVSS1_6, AW39 VSS_6, B2 VSS_2, B26 VSS_12, B36 AVSS2_2, C3 VSS_3, C7 VSS_4, C9 VSS_5, C13 VSS_7, C15 VSS_8, C19 VSS_9, C21 VSS_10, C25 VSS_11, C33 VSS_13, C37 AVSS2_5, E3 VSS_15, E33 AVSS2_3, E37 AVSS2_4, G7 VSS_16, G13 VSS_17, G27 VSS_18, G33 AVSS2_6, G37 AVSS2_7, J3 VSS_19, J9 VSS_21, J11 VSS_22, J13 VSS_23, J15 VSS_24, J17 VSS_25, J19 VSS_26, J21 VSS_27, J25 VSS_28, J27 VSS_29, J29 VSS_30, J31 VSS_14, J33 VSS_31, L3 VSS_20, L7 VSS_33, L9 VSS_34, L11 VSS_35, L13 VSS_36, L15 VSS_37, L17 VSS_38, L19 VSS_39, L21 VSS_40, L23 VSS_41, L33 VSS_32, L37 AVSS2_8, N9 VSS_43, N23 VSS_49, N25 VSS_50, N27 VSS_51, N33 AVSS2_12, N37 AVSS2_9, R3 VSS_44, R9 VSS_45, R13 VSS_57, R15 VSS_46, R19 VSS_47, R21 VSS_48, R23 VSS_74, R25 VSS_53, R27 VSS_52, R29 AVSS2_11, U3 VSS_54, U9 VSS_55, U13 VSS_56, U15 VSS_58, U19 VSS_42, U21 VSS_COM, U25 VSS_65, U27 VSS_60, U29 VSS_61, U37 AVSS2_10, W9 VSS_62, W13 VSS_63, W15 VSS_64, W19 VSS_71, W27 VSS_66
part R pins: AJ29 UART4_TX/SPI1_MOSI_M0/GPIO4_B5_U, AJ31 VCCIO1, AL27 GPIO4_C3_U, AL29 I2C5_SDA/GPIO4_C2_U, AL31 GPIO4_C4_U, AL33 SPI1_CSN1_M0/GPIO4_C0_U, AN31 SDMMC1_D0/UART1_RX_M0/GPIO4_B0_U, AN33 UART4_RX/SPI1_CLK_M0/GPIO4_B4_U, AP34 SDMMC1_D1/UART1_TX_M0/GPIO4_B1_U, AP38 SDMMC1_D3/UART1_RTS/GPIO4_B3_U, AR31 SDMMC1_CMD/GPIO4_A6_U, AR33 UART4_RTS/SPI1_MISO_M0/GPIO4_B7_U, AR35 SDMMC1_CLK/GPIO4_A7_D, AR39 I2C5_SCL/GPIO4_C1_U, AT38 SDMMC1_D2/UART1_CTS/GPIO4_B2_U, AU39 UART4_CTS/SPI1_CSN0_M0/GPIO4_B6_U

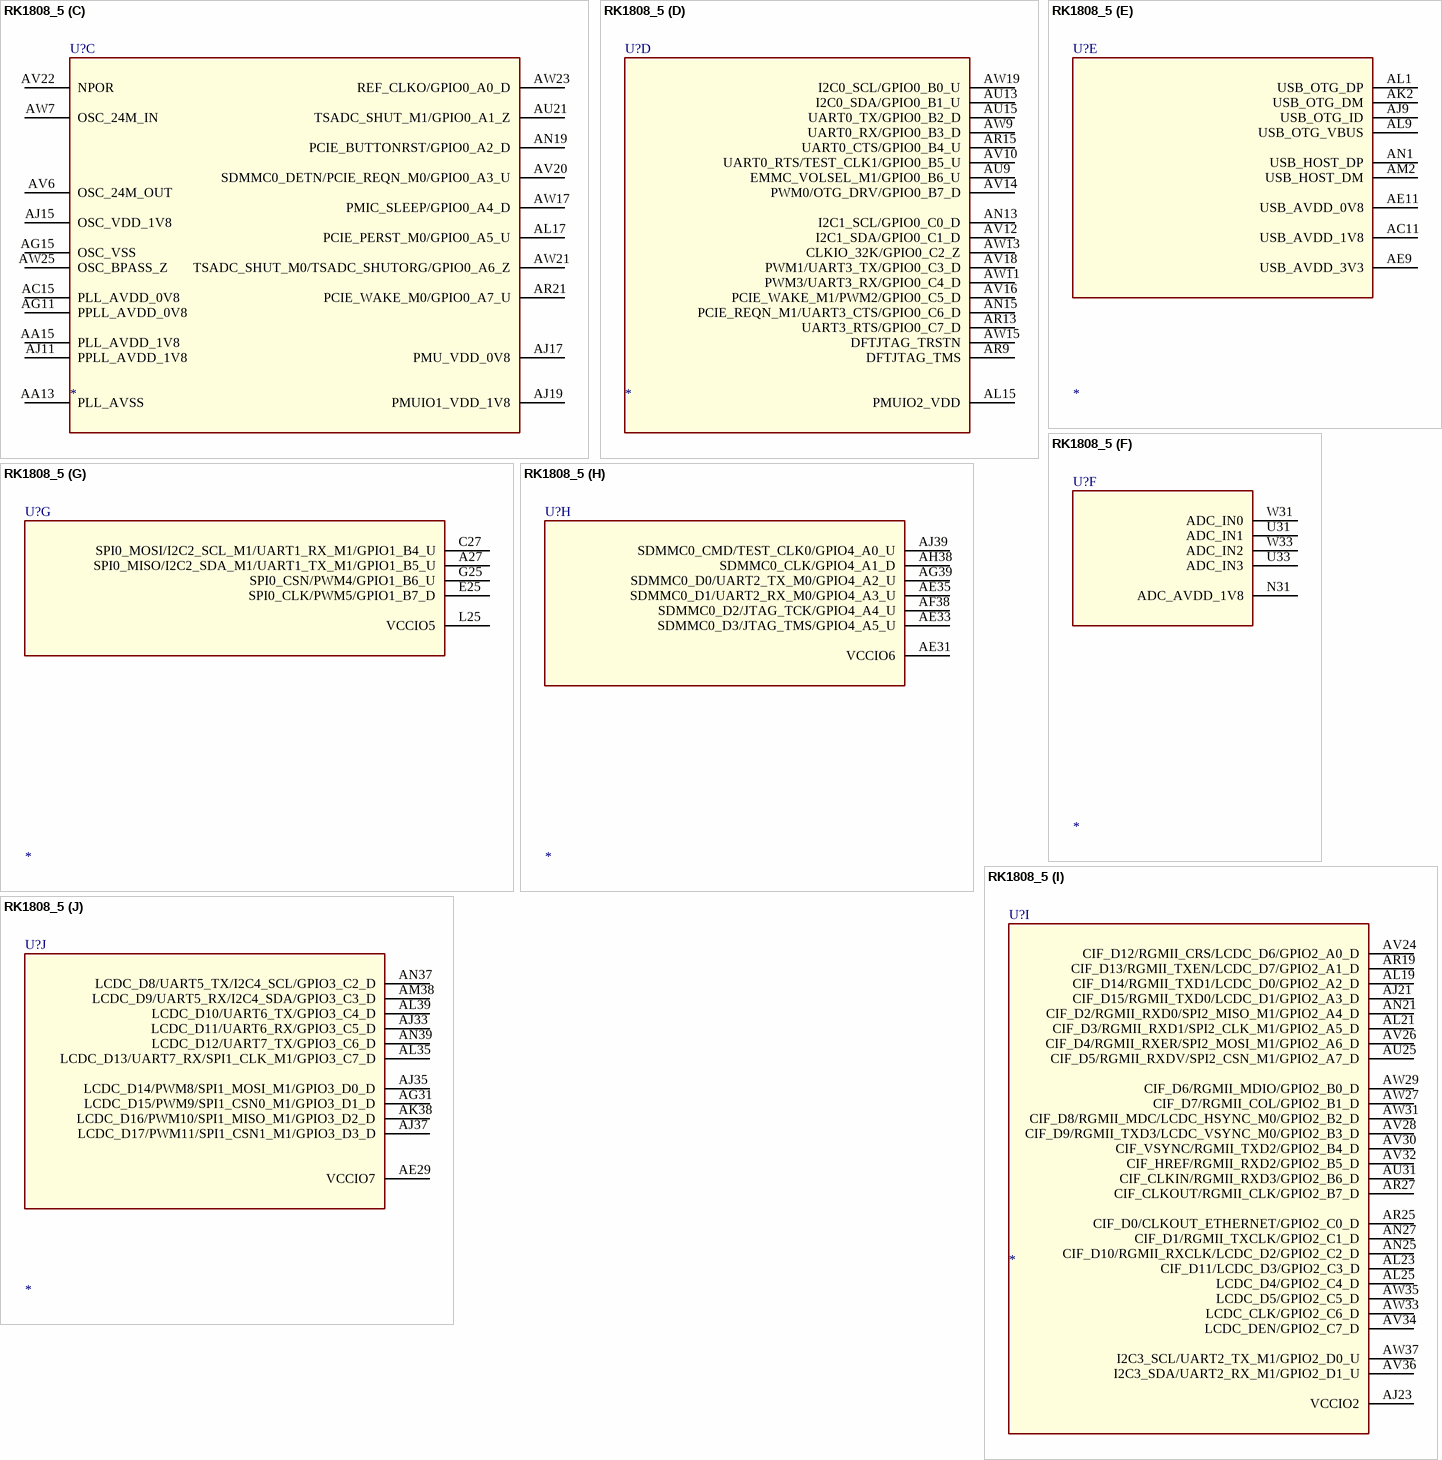
[diagram p274: symbol RK1808_5]

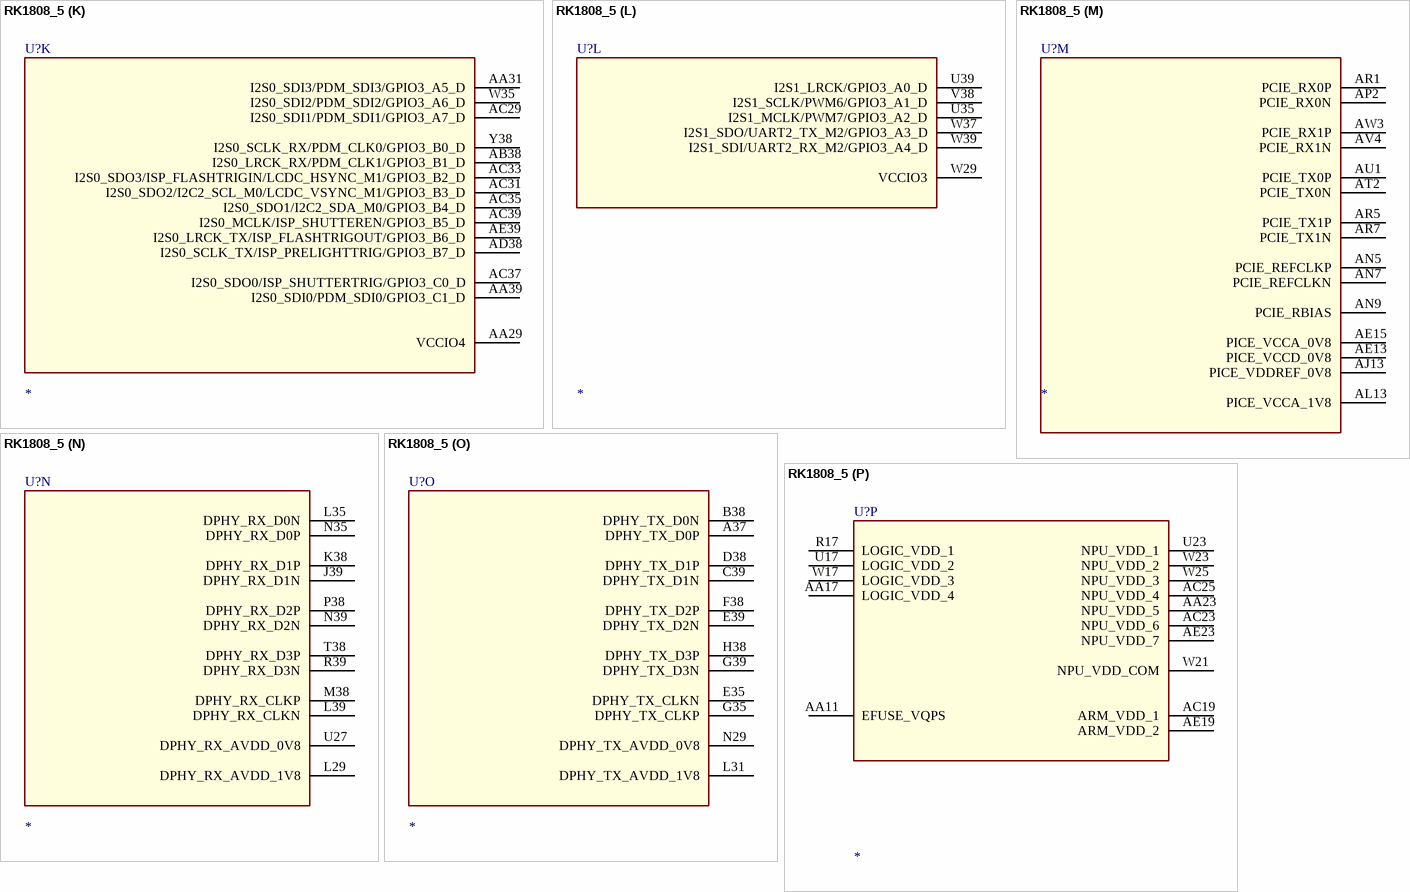
[diagram p275: symbol RK1808_5]

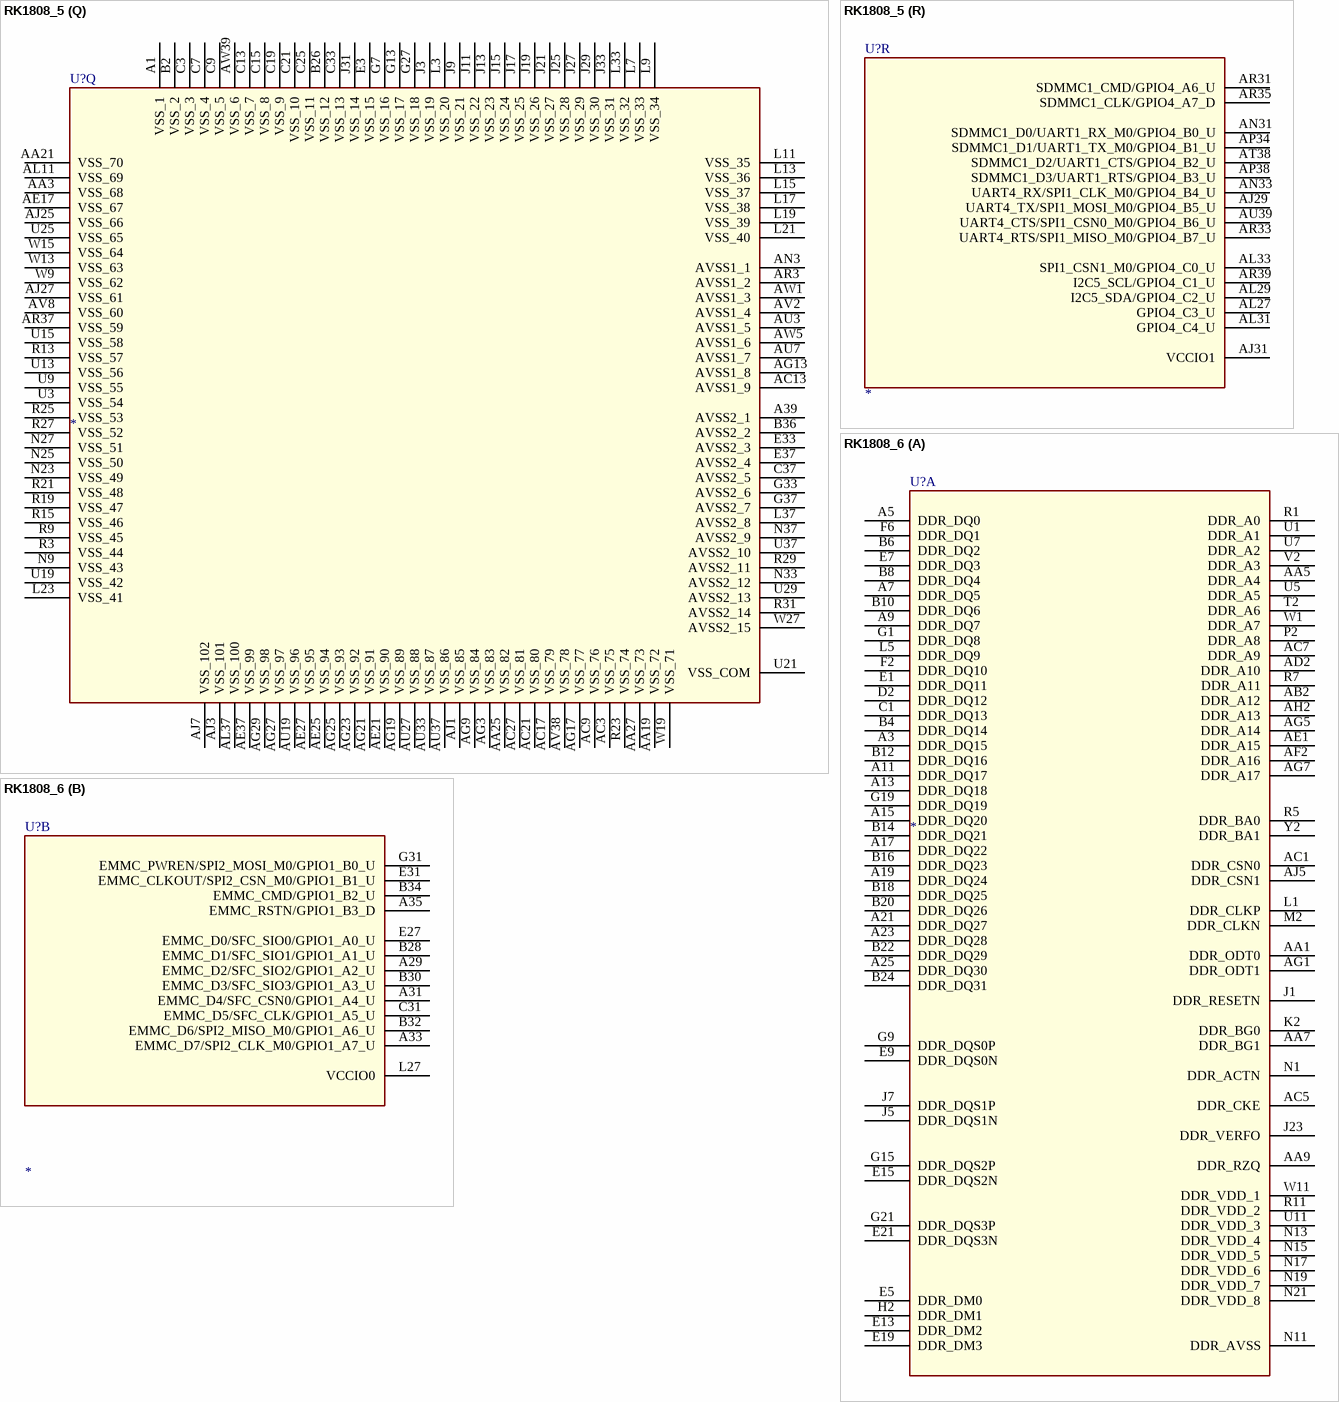
[diagram p276: symbols RK1808_5 to RK1808_6]

## RK1808_5
designator U?
SWAP_INFO: (S1+S2+S3+S4+S5+S6+S7+S8+S9+S10+S11+S12+S13+S14+S15+S16+S17+S18); SPLIT_INST: TRUE
part A pins: A3 DDR_DQ15, A5 DDR_DQ0, A7 DDR_DQ5, A9 DDR_DQ7, A11 DDR_DQ17, A13 DDR_DQ18, A15 DDR_DQ20, A17 DDR_DQ22, A19 DDR_DQ24, A21 DDR_DQ27, A23 DDR_DQ28, A25 DDR_DQ30, AA1 DDR_ODT0, AA5 DDR_A4, AA7 DDR_BG1, AA9 DDR_RZQ, AB2 DDR_A12, AC1 DDR_CSN0, AC5 DDR_CKE, AC7 DDR_A9, AD2 DDR_A10, AE1 DDR_A15, AF2 DDR_A16, AG1 DDR_ODT1, AG5 DDR_A14, AG7 DDR_A17, AH2 DDR_A13, AJ5 DDR_CSN1, B4 DDR_DQ14, B6 DDR_DQ2, B8 DDR_DQ4, B10 DDR_DQ6, B12 DDR_DQ16, B14 DDR_DQ21, B16 DDR_DQ23, B18 DDR_DQ25, B20 DDR_DQ26, B22 DDR_DQ29, B24 DDR_DQ31, C1 DDR_DQ13, D2 DDR_DQ12, E1 DDR_DQ11, E5 DDR_DM0, E7 DDR_DQ3, E9 DDR_DQS0N, E13 DDR_DM2, E15 DDR_DQS2N, E19 DDR_DM3, E21 DDR_DQS3N, F2 DDR_DQ10, F6 DDR_DQ1, G1 DDR_DQ8, G9 DDR_DQS0P, G15 DDR_DQS2P, G19 DDR_DQ19, G21 DDR_DQS3P, H2 DDR_DM1, J1 DDR_RESETN, J5 DDR_DQS1N, J7 DDR_DQS1P, J23 DDR_VERFO, K2 DDR_BG0, L1 DDR_CLKP, L5 DDR_DQ9, M2 DDR_CLKN, N1 DDR_ACTN, N11 DDR_AVSS, N13 DDR_VDD_4, N15 DDR_VDD_5, N17 DDR_VDD_6, N19 DDR_VDD_7, N21 DDR_VDD_8, P2 DDR_A8, R1 DDR_A0, R5 DDR_BA0, R7 DDR_A11, R11 DDR_VDD_2, T2 DDR_A6, U1 DDR_A1, U5 DDR_A5, U7 DDR_A2, U11 DDR_VDD_3, V2 DDR_A3, W1 DDR_A7, W11 DDR_VDD_1, Y2 DDR_BA1
part B pins: A29 EMMC_D2/SFC_SIO2/GPIO1_A2_U, A31 EMMC_D4/SFC_CSN0/GPIO1_A4_U, A33 EMMC_D7/SPI2_CLK_M0/GPIO1_A7_U, A35 EMMC_RSTN/GPIO1_B3_D, B28 EMMC_D1/SFC_SIO1/GPIO1_A1_U, B30 EMMC_D3/SFC_SIO3/GPIO1_A3_U, B32 EMMC_D6/SPI2_MISO_M0/GPIO1_A6_U, B34 EMMC_CMD/GPIO1_B2_U, C31 EMMC_D5/SFC_CLK/GPIO1_A5_U, E27 EMMC_D0/SFC_SIO0/GPIO1_A0_U, E31 EMMC_CLKOUT/SPI2_CSN_M0/GPIO1_B1_U, G31 EMMC_PWREN/SPI2_MOSI_M0/GPIO1_B0_U, L27 VCCIO0
part C pins: AA13 PLL_AVSS, AA15 PLL_AVDD_1V8, AC15 PLL_AVDD_0V8, AG11 PPLL_AVDD_0V8, AG15 OSC_VSS, AJ11 PPLL_AVDD_1V8, AJ15 OSC_VDD_1V8, AJ17 PMU_VDD_0V8, AJ19 PMUIO1_VDD_1V8, AL17 PCIE_PERST_M0/GPIO0_A5_U, AN19 PCIE_BUTTONRST/GPIO0_A2_D, AR21 PCIE_WAKE_M0/GPIO0_A7_U, AU21 TSADC_SHUT_M1/GPIO0_A1_Z, AV6 OSC_24M_OUT, AV20 SDMMC0_DETN/PCIE_REQN_M0/GPIO0_A3_U, AV22 NPOR, AW7 OSC_24M_IN, AW17 PMIC_SLEEP/GPIO0_A4_D, AW21 TSADC_SHUT_M0/TSADC_SHUTORG/GPIO0_A6_Z, AW23 REF_CLKO/GPIO0_A0_D, AW25 OSC_BPASS_Z
part D pins: AL15 PMUIO2_VDD, AN13 I2C1_SCL/GPIO0_C0_D, AN15 PCIE_REQN_M1/UART3_CTS/GPIO0_C6_D, AR9 DFTJTAG_TMS, AR13 UART3_RTS/GPIO0_C7_D, AR15 UART0_CTS/GPIO0_B4_U, AU9 EMMC_VOLSEL_M1/GPIO0_B6_U, AU13 I2C0_SDA/GPIO0_B1_U, AU15 UART0_TX/GPIO0_B2_D, AV10 UART0_RTS/TEST_CLK1/GPIO0_B5_U, AV12 I2C1_SDA/GPIO0_C1_D, AV14 PWM0/OTG_DRV/GPIO0_B7_D, AV16 PCIE_WAKE_M1/PWM2/GPIO0_C5_D, AV18 PWM1/UART3_TX/GPIO0_C3_D, AW9 UART0_RX/GPIO0_B3_D, AW11 PWM3/UART3_RX/GPIO0_C4_D, AW13 CLKIO_32K/GPIO0_C2_Z, AW15 DFTJTAG_TRSTN, AW19 I2C0_SCL/GPIO0_B0_U
part E pins: AC11 USB_AVDD_1V8, AE9 USB_AVDD_3V3, AE11 USB_AVDD_0V8, AJ9 USB_OTG_ID, AK2 USB_OTG_DM, AL1 USB_OTG_DP, AL9 USB_OTG_VBUS, AM2 USB_HOST_DM, AN1 USB_HOST_DP
part F pins: N31 ADC_AVDD_1V8, U31 ADC_IN1, U33 ADC_IN3, W31 ADC_IN0, W33 ADC_IN2
part G pins: A27 SPI0_MISO/I2C2_SDA_M1/UART1_TX_M1/GPIO1_B5_U, C27 SPI0_MOSI/I2C2_SCL_M1/UART1_RX_M1/GPIO1_B4_U, E25 SPI0_CLK/PWM5/GPIO1_B7_D, G25 SPI0_CSN/PWM4/GPIO1_B6_U, L25 VCCIO5
part H pins: AE31 VCCIO6, AE33 SDMMC0_D3/JTAG_TMS/GPIO4_A5_U, AE35 SDMMC0_D1/UART2_RX_M0/GPIO4_A3_U, AF38 SDMMC0_D2/JTAG_TCK/GPIO4_A4_U, AG39 SDMMC0_D0/UART2_TX_M0/GPIO4_A2_U, AH38 SDMMC0_CLK/GPIO4_A1_D, AJ39 SDMMC0_CMD/TEST_CLK0/GPIO4_A0_U
part I pins: AJ21 CIF_D15/RGMII_TXD0/LCDC_D1/GPIO2_A3_D, AJ23 VCCIO2, AL19 CIF_D14/RGMII_TXD1/LCDC_D0/GPIO2_A2_D, AL21 CIF_D3/RGMII_RXD1/SPI2_CLK_M1/GPIO2_A5_D, AL23 CIF_D11/LCDC_D3/GPIO2_C3_D, AL25 LCDC_D4/GPIO2_C4_D, AN21 CIF_D2/RGMII_RXD0/SPI2_MISO_M1/GPIO2_A4_D, AN25 CIF_D10/RGMII_RXCLK/LCDC_D2/GPIO2_C2_D, AN27 CIF_D1/RGMII_TXCLK/GPIO2_C1_D, AR19 CIF_D13/RGMII_TXEN/LCDC_D7/GPIO2_A1_D, AR25 CIF_D0/CLKOUT_ETHERNET/GPIO2_C0_D, AR27 CIF_CLKOUT/RGMII_CLK/GPIO2_B7_D, AU25 CIF_D5/RGMII_RXDV/SPI2_CSN_M1/GPIO2_A7_D, AU31 CIF_CLKIN/RGMII_RXD3/GPIO2_B6_D, AV24 CIF_D12/RGMII_CRS/LCDC_D6/GPIO2_A0_D, AV26 CIF_D4/RGMII_RXER/SPI2_MOSI_M1/GPIO2_A6_D, AV28 CIF_D9/RGMII_TXD3/LCDC_VSYNC_M0/GPIO2_B3_D, AV30 CIF_VSYNC/RGMII_TXD2/GPIO2_B4_D, AV32 CIF_HREF/RGMII_RXD2/GPIO2_B5_D, AV34 LCDC_DEN/GPIO2_C7_D, AV36 I2C3_SDA/UART2_RX_M1/GPIO2_D1_U, AW27 CIF_D7/RGMII_COL/GPIO2_B1_D, AW29 CIF_D6/RGMII_MDIO/GPIO2_B0_D, AW31 CIF_D8/RGMII_MDC/LCDC_HSYNC_M0/GPIO2_B2_D, AW33 LCDC_CLK/GPIO2_C6_D, AW35 LCDC_D5/GPIO2_C5_D, AW37 I2C3_SCL/UART2_TX_M1/GPIO2_D0_U
part J pins: AE29 VCCIO7, AG31 LCDC_D15/PWM9/SPI1_CSN0_M1/GPIO3_D1_D, AJ33 LCDC_D11/UART6_RX/GPIO3_C5_D, AJ35 LCDC_D14/PWM8/SPI1_MOSI_M1/GPIO3_D0_D, AJ37 LCDC_D17/PWM11/SPI1_CSN1_M1/GPIO3_D3_D, AK38 LCDC_D16/PWM10/SPI1_MISO_M1/GPIO3_D2_D, AL35 LCDC_D13/UART7_RX/SPI1_CLK_M1/GPIO3_C7_D, AL39 LCDC_D10/UART6_TX/GPIO3_C4_D, AM38 LCDC_D9/UART5_RX/I2C4_SDA/GPIO3_C3_D, AN37 LCDC_D8/UART5_TX/I2C4_SCL/GPIO3_C2_D, AN39 LCDC_D12/UART7_TX/GPIO3_C6_D
part K pins: AA29 VCCIO4, AA31 I2S0_SDI3/PDM_SDI3/GPIO3_A5_D, AA39 I2S0_SDI0/PDM_SDI0/GPIO3_C1_D, AB38 I2S0_LRCK_RX/PDM_CLK1/GPIO3_B1_D, AC29 I2S0_SDI1/PDM_SDI1/GPIO3_A7_D, AC31 I2S0_SDO2/I2C2_SCL_M0/LCDC_VSYNC_M1/GPIO3_B3_D, AC33 I2S0_SDO3/ISP_FLASHTRIGIN/LCDC_HSYNC_M1/GPIO3_B2_D, AC35 I2S0_SDO1/I2C2_SDA_M0/GPIO3_B4_D, AC37 I2S0_SDO0/ISP_SHUTTERTRIG/GPIO3_C0_D, AC39 I2S0_MCLK/ISP_SHUTTEREN/GPIO3_B5_D, AD38 I2S0_SCLK_TX/ISP_PRELIGHTTRIG/GPIO3_B7_D, AE39 I2S0_LRCK_TX/ISP_FLASHTRIGOUT/GPIO3_B6_D, W35 I2S0_SDI2/PDM_SDI2/GPIO3_A6_D, Y38 I2S0_SCLK_RX/PDM_CLK0/GPIO3_B0_D
part L pins: U35 I2S1_MCLK/PWM7/GPIO3_A2_D, U39 I2S1_LRCK/GPIO3_A0_D, V38 I2S1_SCLK/PWM6/GPIO3_A1_D, W29 VCCIO3, W37 I2S1_SDO/UART2_TX_M2/GPIO3_A3_D, W39 I2S1_SDI/UART2_RX_M2/GPIO3_A4_D
part M pins: AE13 PICE_VCCD_0V8, AE15 PICE_VCCA_0V8, AJ13 PICE_VDDREF_0V8, AL13 PICE_VCCA_1V8, AN5 PCIE_REFCLKP, AN7 PCIE_REFCLKN, AN9 PCIE_RBIAS, AP2 PCIE_RX0N, AR1 PCIE_RX0P, AR5 PCIE_TX1P, AR7 PCIE_TX1N, AT2 PCIE_TX0N, AU1 PCIE_TX0P, AV4 PCIE_RX1N, AW3 PCIE_RX1P
part N pins: J39 DPHY_RX_D1N, K38 DPHY_RX_D1P, L29 DPHY_RX_AVDD_1V8, L35 DPHY_RX_D0N, L39 DPHY_RX_CLKN, M38 DPHY_RX_CLKP, N35 DPHY_RX_D0P, N39 DPHY_RX_D2N, P38 DPHY_RX_D2P, R39 DPHY_RX_D3N, T38 DPHY_RX_D3P, U27 DPHY_RX_AVDD_0V8
part O pins: A37 DPHY_TX_D0P, B38 DPHY_TX_D0N, C39 DPHY_TX_D1N, D38 DPHY_TX_D1P, E35 DPHY_TX_CLKN, E39 DPHY_TX_D2N, F38 DPHY_TX_D2P, G35 DPHY_TX_CLKP, G39 DPHY_TX_D3N, H38 DPHY_TX_D3P, L31 DPHY_TX_AVDD_1V8, N29 DPHY_TX_AVDD_0V8
part P pins: AA11 EFUSE_VQPS, AA17 LOGIC_VDD_4, AA23 NPU_VDD_5, AC19 ARM_VDD_1, AC23 NPU_VDD_6, AC25 NPU_VDD_4, AE19 ARM_VDD_2, AE23 NPU_VDD_7, R17 LOGIC_VDD_1, U17 LOGIC_VDD_2, U23 NPU_VDD_1, W17 LOGIC_VDD_3, W21 NPU_VDD_COM, W23 NPU_VDD_2, W25 NPU_VDD_3
part Q pins: A1 VSS_1, A39 AVSS2_1, AA3 VSS_68, AA19 VSS_72, AA21 VSS_70, AA25 VSS_82, AA27 VSS_73, AC3 VSS_75, AC9 VSS_76, AC13 AVSS1_9, AC17 VSS_79, AC21 VSS_80, AC27 VSS_81, AE17 VSS_67, AE21 VSS_90, AE25 VSS_94, AE27 VSS_95, AE37 VSS_99, AG3 VSS_83, AG9 VSS_84, AG13 AVSS1_8, AG17 VSS_77, AG19 VSS_89, AG21 VSS_91, AG23 VSS_92, AG25 VSS_93, AG27 VSS_97, AG29 VSS_98, AJ1 VSS_85, AJ3 VSS_101, AJ7 VSS_102, AJ25 VSS_66, AJ27 VSS_61, AL11 VSS_69, AL37 VSS_100, AN3 AVSS1_1, AR3 AVSS1_2, AR37 VSS_59, AU3 AVSS1_5, AU7 AVSS1_7, AU19 VSS_96, AU27 VSS_88, AU33 VSS_87, AU37 VSS_86, AV2 AVSS1_4, AV8 VSS_60, AV38 VSS_78, AW1 AVSS1_3, AW5 AVSS1_6, AW39 VSS_6, B2 VSS_2, B26 VSS_12, B36 AVSS2_2, C3 VSS_3, C7 VSS_4, C9 VSS_5, C13 VSS_7, C15 VSS_8, C19 VSS_9, C21 VSS_10, C25 VSS_11, C33 VSS_13, C37 AVSS2_5, E3 VSS_15, E33 AVSS2_3, E37 AVSS2_4, G7 VSS_16, G13 VSS_17, G27 VSS_18, G33 AVSS2_6, G37 AVSS2_7, J3 VSS_19, J9 VSS_21, J11 VSS_22, J13 VSS_23, J15 VSS_24, J17 VSS_25, J19 VSS_26, J21 VSS_27, J25 VSS_28, J27 VSS_29, J29 VSS_30, J31 VSS_14, J33 VSS_31, L3 VSS_20, L7 VSS_33, L9 VSS_34, L11 VSS_35, L13 VSS_36, L15 VSS_37, L17 VSS_38, L19 VSS_39, L21 VSS_40, L23 VSS_41, L33 VSS_32, L37 AVSS2_8, N9 VSS_43, N23 VSS_49, N25 VSS_50, N27 VSS_51, N33 AVSS2_12, N37 AVSS2_9, R3 VSS_44, R9 VSS_45, R13 VSS_57, R15 VSS_46, R19 VSS_47, R21 VSS_48, R23 VSS_74, R25 VSS_53, R27 VSS_52, R29 AVSS2_11, R31 AVSS2_14, U3 VSS_54, U9 VSS_55, U13 VSS_56, U15 VSS_58, U19 VSS_42, U21 VSS_COM, U25 VSS_65, U29 AVSS2_13, U37 AVSS2_10, W9 VSS_62, W13 VSS_63, W15 VSS_64, W19 VSS_71, W27 AVSS2_15
part R pins: AJ29 UART4_TX/SPI1_MOSI_M0/GPIO4_B5_U, AJ31 VCCIO1, AL27 GPIO4_C3_U, AL29 I2C5_SDA/GPIO4_C2_U, AL31 GPIO4_C4_U, AL33 SPI1_CSN1_M0/GPIO4_C0_U, AN31 SDMMC1_D0/UART1_RX_M0/GPIO4_B0_U, AN33 UART4_RX/SPI1_CLK_M0/GPIO4_B4_U, AP34 SDMMC1_D1/UART1_TX_M0/GPIO4_B1_U, AP38 SDMMC1_D3/UART1_RTS/GPIO4_B3_U, AR31 SDMMC1_CMD/GPIO4_A6_U, AR33 UART4_RTS/SPI1_MISO_M0/GPIO4_B7_U, AR35 SDMMC1_CLK/GPIO4_A7_D, AR39 I2C5_SCL/GPIO4_C1_U, AT38 SDMMC1_D2/UART1_CTS/GPIO4_B2_U, AU39 UART4_CTS/SPI1_CSN0_M0/GPIO4_B6_U

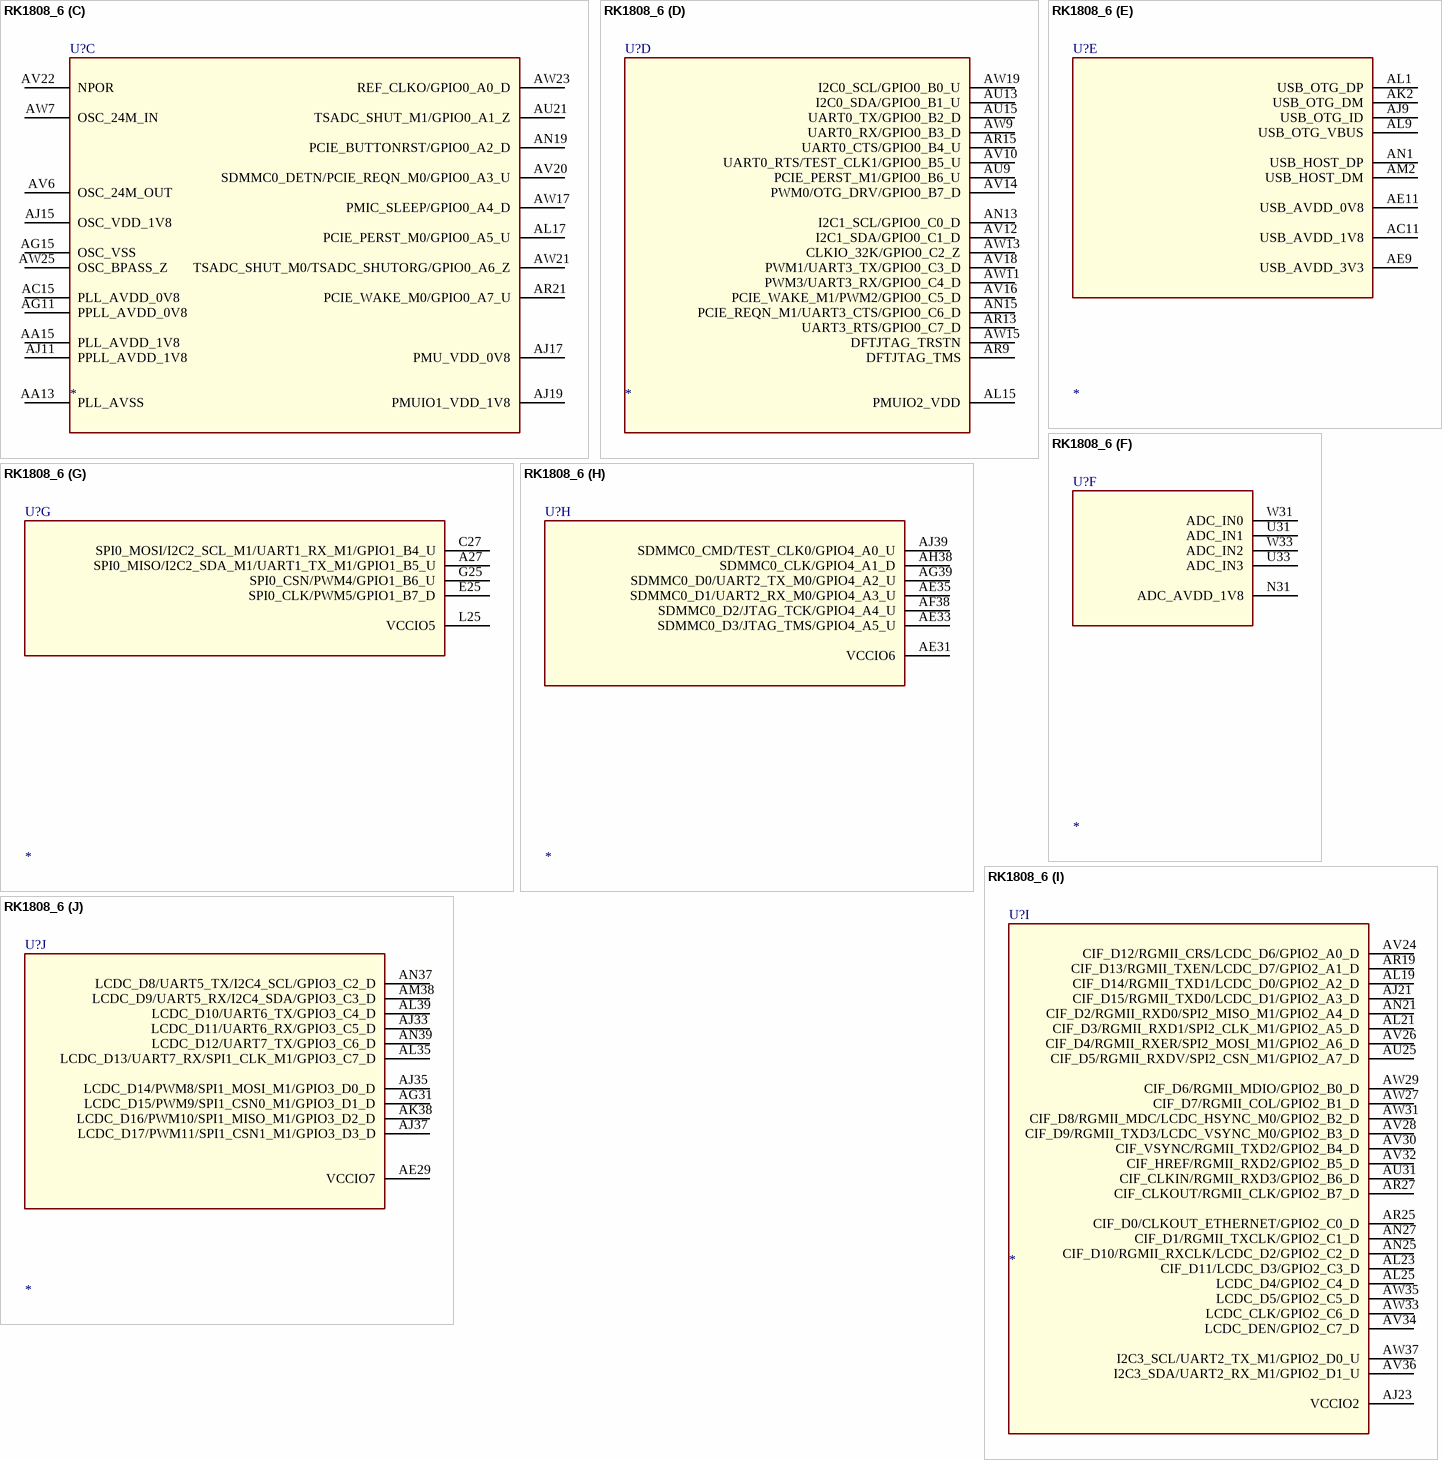
[diagram p277: symbol RK1808_6]

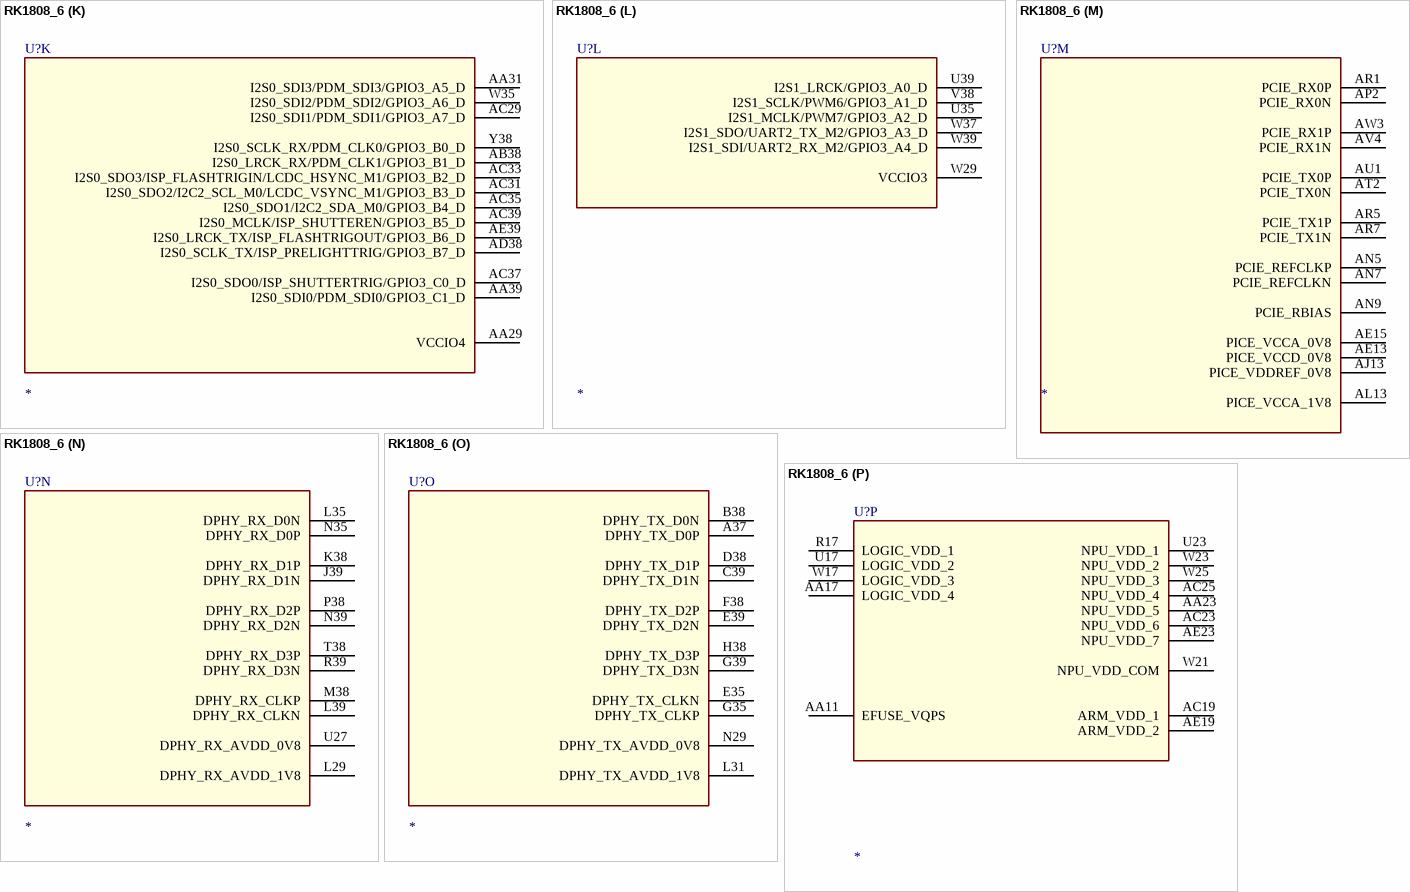
[diagram p278: symbol RK1808_6]

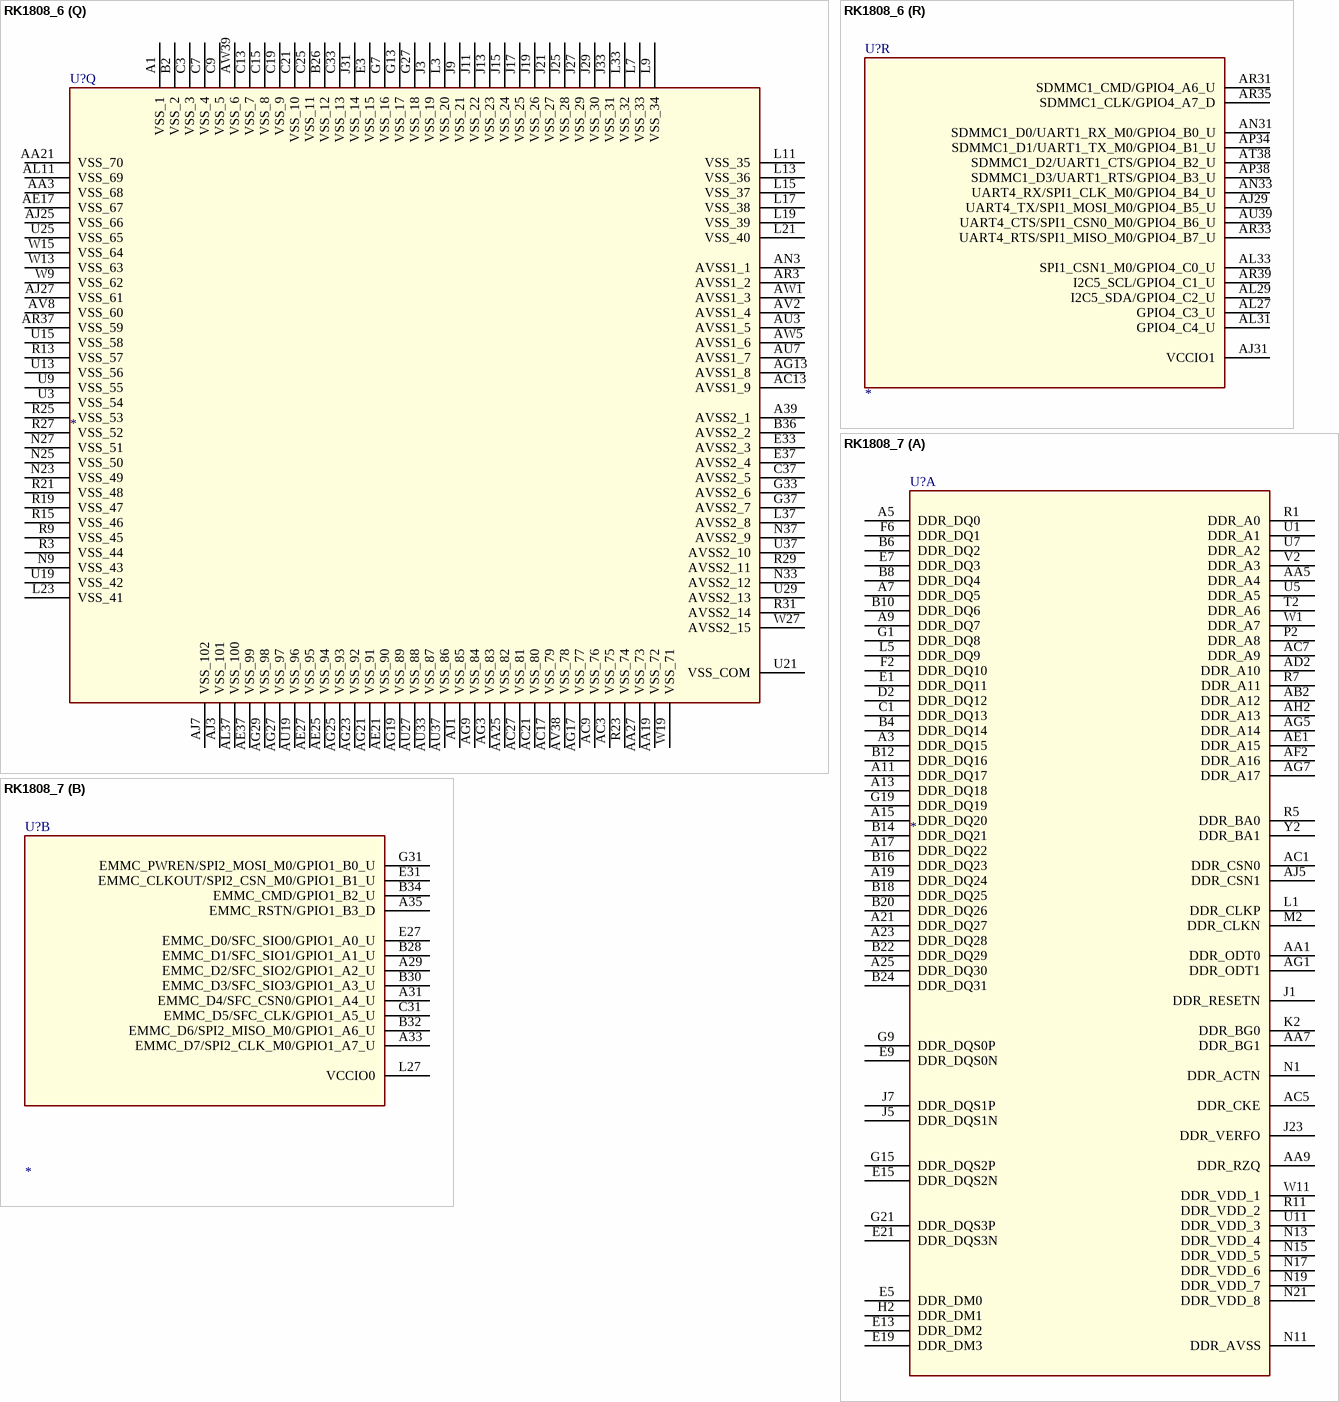
[diagram p279: symbols RK1808_6 to RK1808_7]

## RK1808_6
designator U?
SWAP_INFO: (S1+S2+S3+S4+S5+S6+S7+S8+S9+S10+S11+S12+S13+S14+S15+S16+S17+S18); SPLIT_INST: TRUE
part A pins: A3 DDR_DQ15, A5 DDR_DQ0, A7 DDR_DQ5, A9 DDR_DQ7, A11 DDR_DQ17, A13 DDR_DQ18, A15 DDR_DQ20, A17 DDR_DQ22, A19 DDR_DQ24, A21 DDR_DQ27, A23 DDR_DQ28, A25 DDR_DQ30, AA1 DDR_ODT0, AA5 DDR_A4, AA7 DDR_BG1, AA9 DDR_RZQ, AB2 DDR_A12, AC1 DDR_CSN0, AC5 DDR_CKE, AC7 DDR_A9, AD2 DDR_A10, AE1 DDR_A15, AF2 DDR_A16, AG1 DDR_ODT1, AG5 DDR_A14, AG7 DDR_A17, AH2 DDR_A13, AJ5 DDR_CSN1, B4 DDR_DQ14, B6 DDR_DQ2, B8 DDR_DQ4, B10 DDR_DQ6, B12 DDR_DQ16, B14 DDR_DQ21, B16 DDR_DQ23, B18 DDR_DQ25, B20 DDR_DQ26, B22 DDR_DQ29, B24 DDR_DQ31, C1 DDR_DQ13, D2 DDR_DQ12, E1 DDR_DQ11, E5 DDR_DM0, E7 DDR_DQ3, E9 DDR_DQS0N, E13 DDR_DM2, E15 DDR_DQS2N, E19 DDR_DM3, E21 DDR_DQS3N, F2 DDR_DQ10, F6 DDR_DQ1, G1 DDR_DQ8, G9 DDR_DQS0P, G15 DDR_DQS2P, G19 DDR_DQ19, G21 DDR_DQS3P, H2 DDR_DM1, J1 DDR_RESETN, J5 DDR_DQS1N, J7 DDR_DQS1P, J23 DDR_VERFO, K2 DDR_BG0, L1 DDR_CLKP, L5 DDR_DQ9, M2 DDR_CLKN, N1 DDR_ACTN, N11 DDR_AVSS, N13 DDR_VDD_4, N15 DDR_VDD_5, N17 DDR_VDD_6, N19 DDR_VDD_7, N21 DDR_VDD_8, P2 DDR_A8, R1 DDR_A0, R5 DDR_BA0, R7 DDR_A11, R11 DDR_VDD_2, T2 DDR_A6, U1 DDR_A1, U5 DDR_A5, U7 DDR_A2, U11 DDR_VDD_3, V2 DDR_A3, W1 DDR_A7, W11 DDR_VDD_1, Y2 DDR_BA1
part B pins: A29 EMMC_D2/SFC_SIO2/GPIO1_A2_U, A31 EMMC_D4/SFC_CSN0/GPIO1_A4_U, A33 EMMC_D7/SPI2_CLK_M0/GPIO1_A7_U, A35 EMMC_RSTN/GPIO1_B3_D, B28 EMMC_D1/SFC_SIO1/GPIO1_A1_U, B30 EMMC_D3/SFC_SIO3/GPIO1_A3_U, B32 EMMC_D6/SPI2_MISO_M0/GPIO1_A6_U, B34 EMMC_CMD/GPIO1_B2_U, C31 EMMC_D5/SFC_CLK/GPIO1_A5_U, E27 EMMC_D0/SFC_SIO0/GPIO1_A0_U, E31 EMMC_CLKOUT/SPI2_CSN_M0/GPIO1_B1_U, G31 EMMC_PWREN/SPI2_MOSI_M0/GPIO1_B0_U, L27 VCCIO0
part C pins: AA13 PLL_AVSS, AA15 PLL_AVDD_1V8, AC15 PLL_AVDD_0V8, AG11 PPLL_AVDD_0V8, AG15 OSC_VSS, AJ11 PPLL_AVDD_1V8, AJ15 OSC_VDD_1V8, AJ17 PMU_VDD_0V8, AJ19 PMUIO1_VDD_1V8, AL17 PCIE_PERST_M0/GPIO0_A5_U, AN19 PCIE_BUTTONRST/GPIO0_A2_D, AR21 PCIE_WAKE_M0/GPIO0_A7_U, AU21 TSADC_SHUT_M1/GPIO0_A1_Z, AV6 OSC_24M_OUT, AV20 SDMMC0_DETN/PCIE_REQN_M0/GPIO0_A3_U, AV22 NPOR, AW7 OSC_24M_IN, AW17 PMIC_SLEEP/GPIO0_A4_D, AW21 TSADC_SHUT_M0/TSADC_SHUTORG/GPIO0_A6_Z, AW23 REF_CLKO/GPIO0_A0_D, AW25 OSC_BPASS_Z
part D pins: AL15 PMUIO2_VDD, AN13 I2C1_SCL/GPIO0_C0_D, AN15 PCIE_REQN_M1/UART3_CTS/GPIO0_C6_D, AR9 DFTJTAG_TMS, AR13 UART3_RTS/GPIO0_C7_D, AR15 UART0_CTS/GPIO0_B4_U, AU9 PCIE_PERST_M1/GPIO0_B6_U, AU13 I2C0_SDA/GPIO0_B1_U, AU15 UART0_TX/GPIO0_B2_D, AV10 UART0_RTS/TEST_CLK1/GPIO0_B5_U, AV12 I2C1_SDA/GPIO0_C1_D, AV14 PWM0/OTG_DRV/GPIO0_B7_D, AV16 PCIE_WAKE_M1/PWM2/GPIO0_C5_D, AV18 PWM1/UART3_TX/GPIO0_C3_D, AW9 UART0_RX/GPIO0_B3_D, AW11 PWM3/UART3_RX/GPIO0_C4_D, AW13 CLKIO_32K/GPIO0_C2_Z, AW15 DFTJTAG_TRSTN, AW19 I2C0_SCL/GPIO0_B0_U
part E pins: AC11 USB_AVDD_1V8, AE9 USB_AVDD_3V3, AE11 USB_AVDD_0V8, AJ9 USB_OTG_ID, AK2 USB_OTG_DM, AL1 USB_OTG_DP, AL9 USB_OTG_VBUS, AM2 USB_HOST_DM, AN1 USB_HOST_DP
part F pins: N31 ADC_AVDD_1V8, U31 ADC_IN1, U33 ADC_IN3, W31 ADC_IN0, W33 ADC_IN2
part G pins: A27 SPI0_MISO/I2C2_SDA_M1/UART1_TX_M1/GPIO1_B5_U, C27 SPI0_MOSI/I2C2_SCL_M1/UART1_RX_M1/GPIO1_B4_U, E25 SPI0_CLK/PWM5/GPIO1_B7_D, G25 SPI0_CSN/PWM4/GPIO1_B6_U, L25 VCCIO5
part H pins: AE31 VCCIO6, AE33 SDMMC0_D3/JTAG_TMS/GPIO4_A5_U, AE35 SDMMC0_D1/UART2_RX_M0/GPIO4_A3_U, AF38 SDMMC0_D2/JTAG_TCK/GPIO4_A4_U, AG39 SDMMC0_D0/UART2_TX_M0/GPIO4_A2_U, AH38 SDMMC0_CLK/GPIO4_A1_D, AJ39 SDMMC0_CMD/TEST_CLK0/GPIO4_A0_U
part I pins: AJ21 CIF_D15/RGMII_TXD0/LCDC_D1/GPIO2_A3_D, AJ23 VCCIO2, AL19 CIF_D14/RGMII_TXD1/LCDC_D0/GPIO2_A2_D, AL21 CIF_D3/RGMII_RXD1/SPI2_CLK_M1/GPIO2_A5_D, AL23 CIF_D11/LCDC_D3/GPIO2_C3_D, AL25 LCDC_D4/GPIO2_C4_D, AN21 CIF_D2/RGMII_RXD0/SPI2_MISO_M1/GPIO2_A4_D, AN25 CIF_D10/RGMII_RXCLK/LCDC_D2/GPIO2_C2_D, AN27 CIF_D1/RGMII_TXCLK/GPIO2_C1_D, AR19 CIF_D13/RGMII_TXEN/LCDC_D7/GPIO2_A1_D, AR25 CIF_D0/CLKOUT_ETHERNET/GPIO2_C0_D, AR27 CIF_CLKOUT/RGMII_CLK/GPIO2_B7_D, AU25 CIF_D5/RGMII_RXDV/SPI2_CSN_M1/GPIO2_A7_D, AU31 CIF_CLKIN/RGMII_RXD3/GPIO2_B6_D, AV24 CIF_D12/RGMII_CRS/LCDC_D6/GPIO2_A0_D, AV26 CIF_D4/RGMII_RXER/SPI2_MOSI_M1/GPIO2_A6_D, AV28 CIF_D9/RGMII_TXD3/LCDC_VSYNC_M0/GPIO2_B3_D, AV30 CIF_VSYNC/RGMII_TXD2/GPIO2_B4_D, AV32 CIF_HREF/RGMII_RXD2/GPIO2_B5_D, AV34 LCDC_DEN/GPIO2_C7_D, AV36 I2C3_SDA/UART2_RX_M1/GPIO2_D1_U, AW27 CIF_D7/RGMII_COL/GPIO2_B1_D, AW29 CIF_D6/RGMII_MDIO/GPIO2_B0_D, AW31 CIF_D8/RGMII_MDC/LCDC_HSYNC_M0/GPIO2_B2_D, AW33 LCDC_CLK/GPIO2_C6_D, AW35 LCDC_D5/GPIO2_C5_D, AW37 I2C3_SCL/UART2_TX_M1/GPIO2_D0_U
part J pins: AE29 VCCIO7, AG31 LCDC_D15/PWM9/SPI1_CSN0_M1/GPIO3_D1_D, AJ33 LCDC_D11/UART6_RX/GPIO3_C5_D, AJ35 LCDC_D14/PWM8/SPI1_MOSI_M1/GPIO3_D0_D, AJ37 LCDC_D17/PWM11/SPI1_CSN1_M1/GPIO3_D3_D, AK38 LCDC_D16/PWM10/SPI1_MISO_M1/GPIO3_D2_D, AL35 LCDC_D13/UART7_RX/SPI1_CLK_M1/GPIO3_C7_D, AL39 LCDC_D10/UART6_TX/GPIO3_C4_D, AM38 LCDC_D9/UART5_RX/I2C4_SDA/GPIO3_C3_D, AN37 LCDC_D8/UART5_TX/I2C4_SCL/GPIO3_C2_D, AN39 LCDC_D12/UART7_TX/GPIO3_C6_D
part K pins: AA29 VCCIO4, AA31 I2S0_SDI3/PDM_SDI3/GPIO3_A5_D, AA39 I2S0_SDI0/PDM_SDI0/GPIO3_C1_D, AB38 I2S0_LRCK_RX/PDM_CLK1/GPIO3_B1_D, AC29 I2S0_SDI1/PDM_SDI1/GPIO3_A7_D, AC31 I2S0_SDO2/I2C2_SCL_M0/LCDC_VSYNC_M1/GPIO3_B3_D, AC33 I2S0_SDO3/ISP_FLASHTRIGIN/LCDC_HSYNC_M1/GPIO3_B2_D, AC35 I2S0_SDO1/I2C2_SDA_M0/GPIO3_B4_D, AC37 I2S0_SDO0/ISP_SHUTTERTRIG/GPIO3_C0_D, AC39 I2S0_MCLK/ISP_SHUTTEREN/GPIO3_B5_D, AD38 I2S0_SCLK_TX/ISP_PRELIGHTTRIG/GPIO3_B7_D, AE39 I2S0_LRCK_TX/ISP_FLASHTRIGOUT/GPIO3_B6_D, W35 I2S0_SDI2/PDM_SDI2/GPIO3_A6_D, Y38 I2S0_SCLK_RX/PDM_CLK0/GPIO3_B0_D
part L pins: U35 I2S1_MCLK/PWM7/GPIO3_A2_D, U39 I2S1_LRCK/GPIO3_A0_D, V38 I2S1_SCLK/PWM6/GPIO3_A1_D, W29 VCCIO3, W37 I2S1_SDO/UART2_TX_M2/GPIO3_A3_D, W39 I2S1_SDI/UART2_RX_M2/GPIO3_A4_D
part M pins: AE13 PICE_VCCD_0V8, AE15 PICE_VCCA_0V8, AJ13 PICE_VDDREF_0V8, AL13 PICE_VCCA_1V8, AN5 PCIE_REFCLKP, AN7 PCIE_REFCLKN, AN9 PCIE_RBIAS, AP2 PCIE_RX0N, AR1 PCIE_RX0P, AR5 PCIE_TX1P, AR7 PCIE_TX1N, AT2 PCIE_TX0N, AU1 PCIE_TX0P, AV4 PCIE_RX1N, AW3 PCIE_RX1P
part N pins: J39 DPHY_RX_D1N, K38 DPHY_RX_D1P, L29 DPHY_RX_AVDD_1V8, L35 DPHY_RX_D0N, L39 DPHY_RX_CLKN, M38 DPHY_RX_CLKP, N35 DPHY_RX_D0P, N39 DPHY_RX_D2N, P38 DPHY_RX_D2P, R39 DPHY_RX_D3N, T38 DPHY_RX_D3P, U27 DPHY_RX_AVDD_0V8
part O pins: A37 DPHY_TX_D0P, B38 DPHY_TX_D0N, C39 DPHY_TX_D1N, D38 DPHY_TX_D1P, E35 DPHY_TX_CLKN, E39 DPHY_TX_D2N, F38 DPHY_TX_D2P, G35 DPHY_TX_CLKP, G39 DPHY_TX_D3N, H38 DPHY_TX_D3P, L31 DPHY_TX_AVDD_1V8, N29 DPHY_TX_AVDD_0V8
part P pins: AA11 EFUSE_VQPS, AA17 LOGIC_VDD_4, AA23 NPU_VDD_5, AC19 ARM_VDD_1, AC23 NPU_VDD_6, AC25 NPU_VDD_4, AE19 ARM_VDD_2, AE23 NPU_VDD_7, R17 LOGIC_VDD_1, U17 LOGIC_VDD_2, U23 NPU_VDD_1, W17 LOGIC_VDD_3, W21 NPU_VDD_COM, W23 NPU_VDD_2, W25 NPU_VDD_3
part Q pins: A1 VSS_1, A39 AVSS2_1, AA3 VSS_68, AA19 VSS_72, AA21 VSS_70, AA25 VSS_82, AA27 VSS_73, AC3 VSS_75, AC9 VSS_76, AC13 AVSS1_9, AC17 VSS_79, AC21 VSS_80, AC27 VSS_81, AE17 VSS_67, AE21 VSS_90, AE25 VSS_94, AE27 VSS_95, AE37 VSS_99, AG3 VSS_83, AG9 VSS_84, AG13 AVSS1_8, AG17 VSS_77, AG19 VSS_89, AG21 VSS_91, AG23 VSS_92, AG25 VSS_93, AG27 VSS_97, AG29 VSS_98, AJ1 VSS_85, AJ3 VSS_101, AJ7 VSS_102, AJ25 VSS_66, AJ27 VSS_61, AL11 VSS_69, AL37 VSS_100, AN3 AVSS1_1, AR3 AVSS1_2, AR37 VSS_59, AU3 AVSS1_5, AU7 AVSS1_7, AU19 VSS_96, AU27 VSS_88, AU33 VSS_87, AU37 VSS_86, AV2 AVSS1_4, AV8 VSS_60, AV38 VSS_78, AW1 AVSS1_3, AW5 AVSS1_6, AW39 VSS_6, B2 VSS_2, B26 VSS_12, B36 AVSS2_2, C3 VSS_3, C7 VSS_4, C9 VSS_5, C13 VSS_7, C15 VSS_8, C19 VSS_9, C21 VSS_10, C25 VSS_11, C33 VSS_13, C37 AVSS2_5, E3 VSS_15, E33 AVSS2_3, E37 AVSS2_4, G7 VSS_16, G13 VSS_17, G27 VSS_18, G33 AVSS2_6, G37 AVSS2_7, J3 VSS_19, J9 VSS_21, J11 VSS_22, J13 VSS_23, J15 VSS_24, J17 VSS_25, J19 VSS_26, J21 VSS_27, J25 VSS_28, J27 VSS_29, J29 VSS_30, J31 VSS_14, J33 VSS_31, L3 VSS_20, L7 VSS_33, L9 VSS_34, L11 VSS_35, L13 VSS_36, L15 VSS_37, L17 VSS_38, L19 VSS_39, L21 VSS_40, L23 VSS_41, L33 VSS_32, L37 AVSS2_8, N9 VSS_43, N23 VSS_49, N25 VSS_50, N27 VSS_51, N33 AVSS2_12, N37 AVSS2_9, R3 VSS_44, R9 VSS_45, R13 VSS_57, R15 VSS_46, R19 VSS_47, R21 VSS_48, R23 VSS_74, R25 VSS_53, R27 VSS_52, R29 AVSS2_11, R31 AVSS2_14, U3 VSS_54, U9 VSS_55, U13 VSS_56, U15 VSS_58, U19 VSS_42, U21 VSS_COM, U25 VSS_65, U29 AVSS2_13, U37 AVSS2_10, W9 VSS_62, W13 VSS_63, W15 VSS_64, W19 VSS_71, W27 AVSS2_15
part R pins: AJ29 UART4_TX/SPI1_MOSI_M0/GPIO4_B5_U, AJ31 VCCIO1, AL27 GPIO4_C3_U, AL29 I2C5_SDA/GPIO4_C2_U, AL31 GPIO4_C4_U, AL33 SPI1_CSN1_M0/GPIO4_C0_U, AN31 SDMMC1_D0/UART1_RX_M0/GPIO4_B0_U, AN33 UART4_RX/SPI1_CLK_M0/GPIO4_B4_U, AP34 SDMMC1_D1/UART1_TX_M0/GPIO4_B1_U, AP38 SDMMC1_D3/UART1_RTS/GPIO4_B3_U, AR31 SDMMC1_CMD/GPIO4_A6_U, AR33 UART4_RTS/SPI1_MISO_M0/GPIO4_B7_U, AR35 SDMMC1_CLK/GPIO4_A7_D, AR39 I2C5_SCL/GPIO4_C1_U, AT38 SDMMC1_D2/UART1_CTS/GPIO4_B2_U, AU39 UART4_CTS/SPI1_CSN0_M0/GPIO4_B6_U

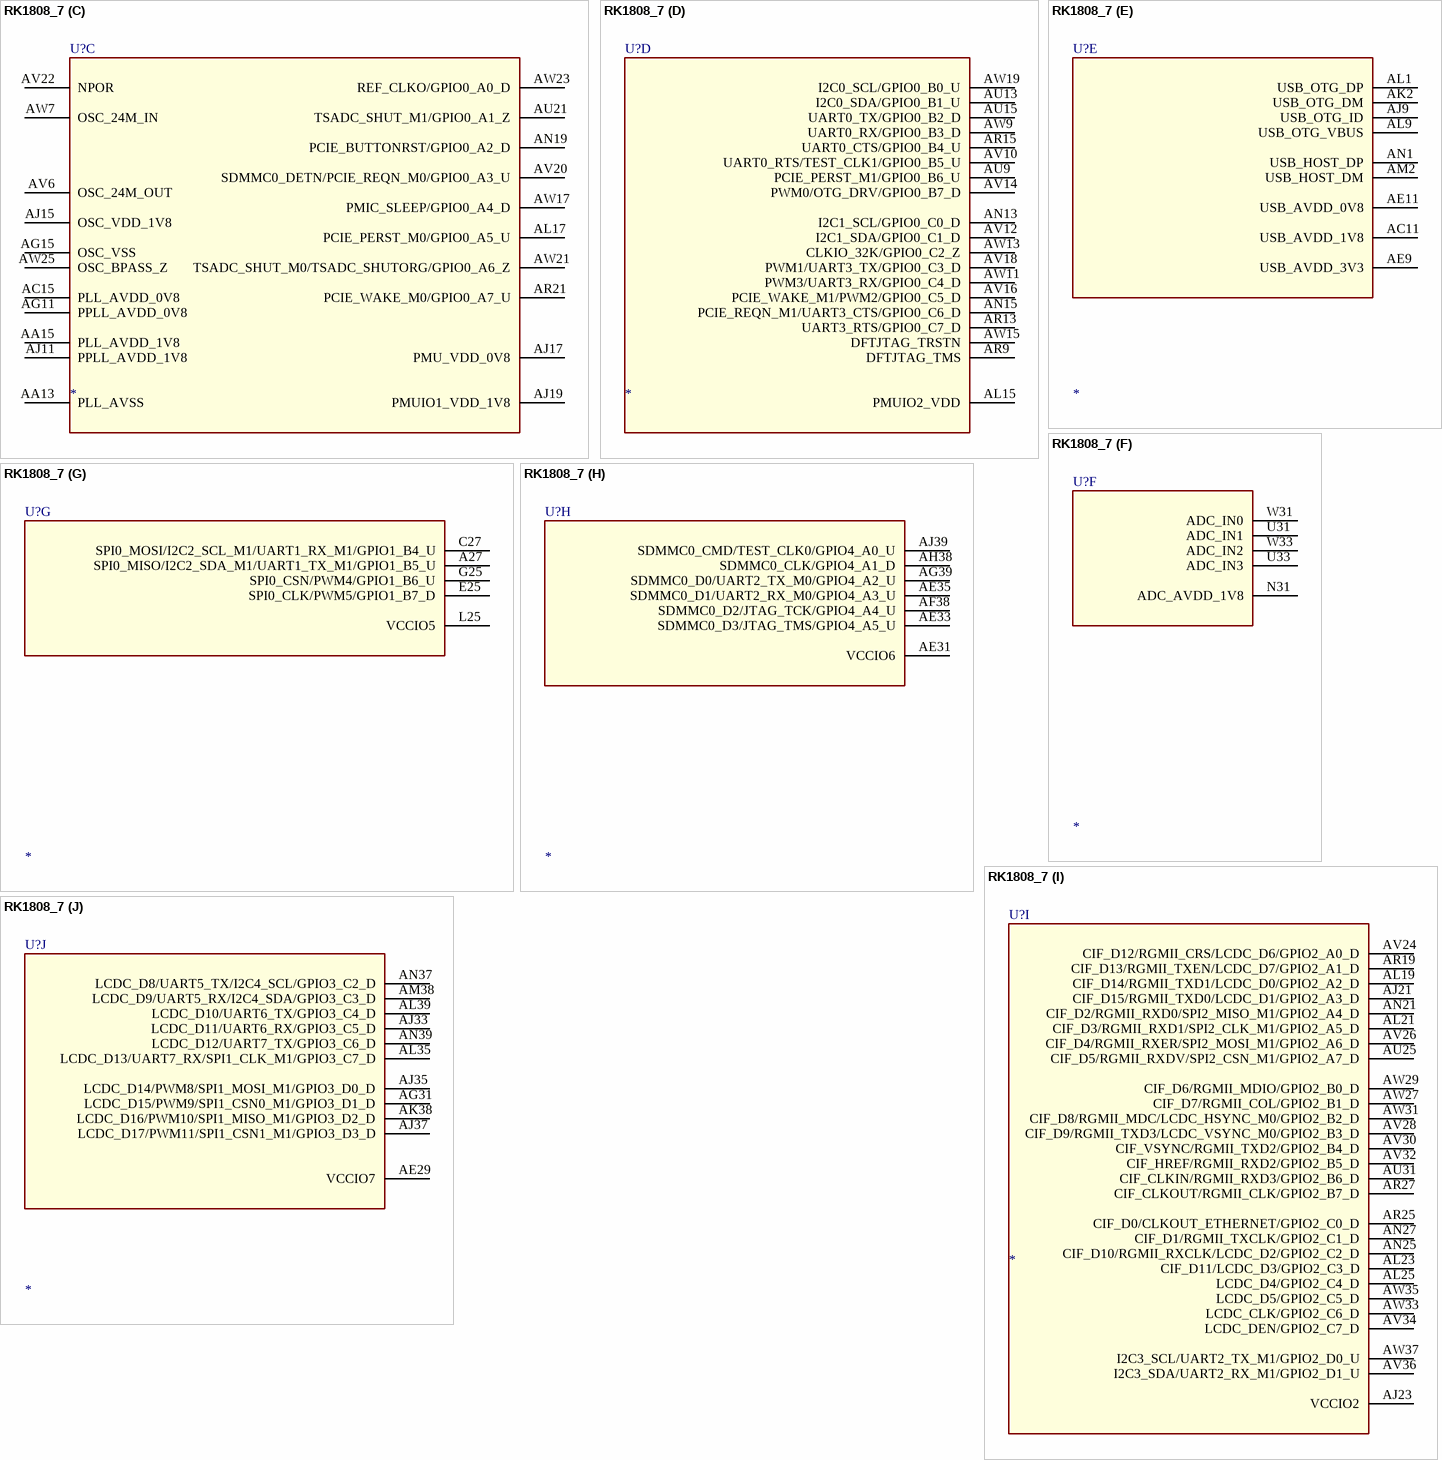
[diagram p280: symbol RK1808_7]

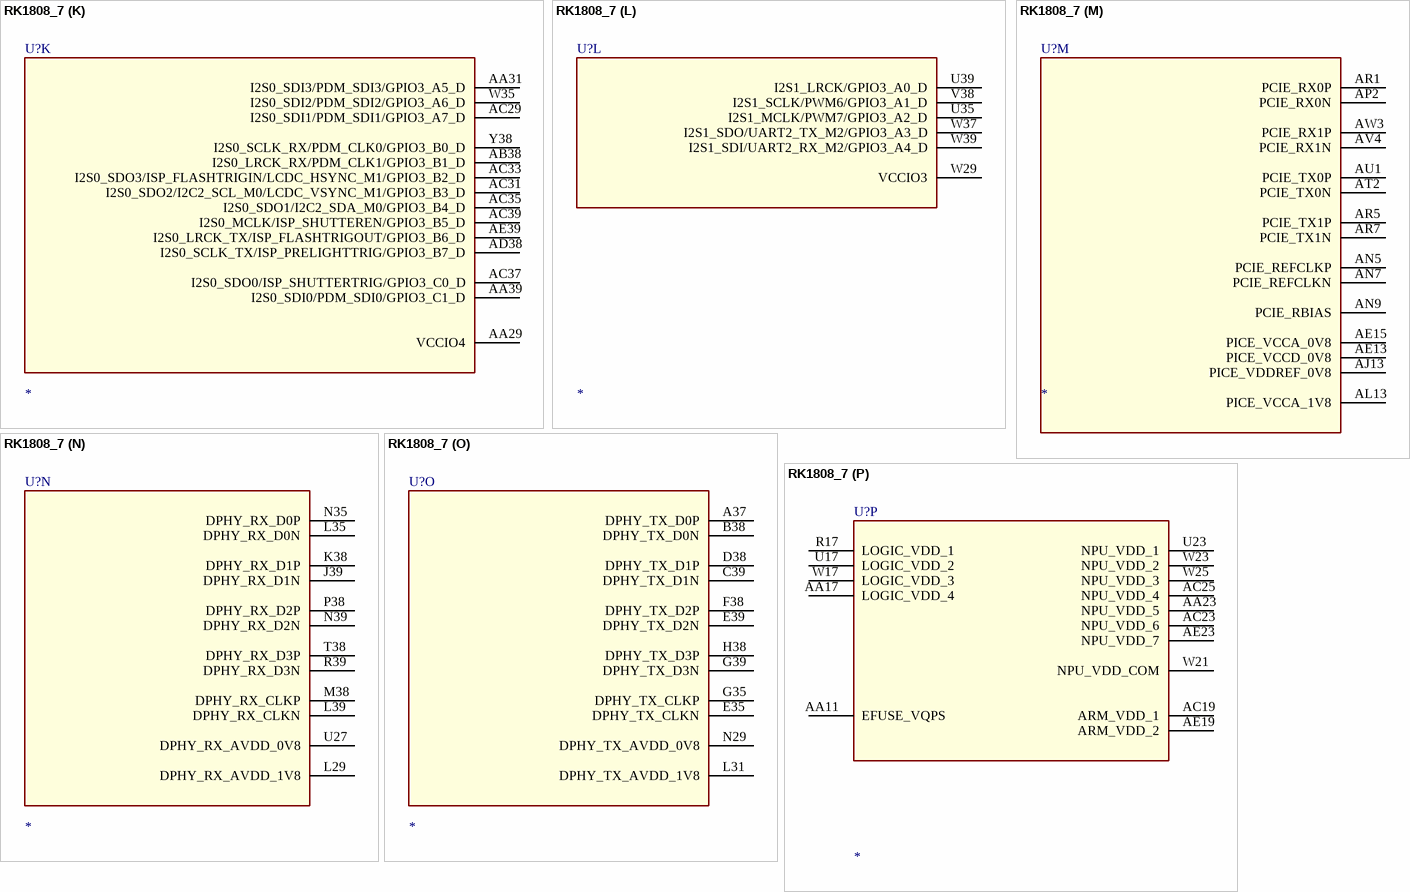
[diagram p281: symbol RK1808_7]

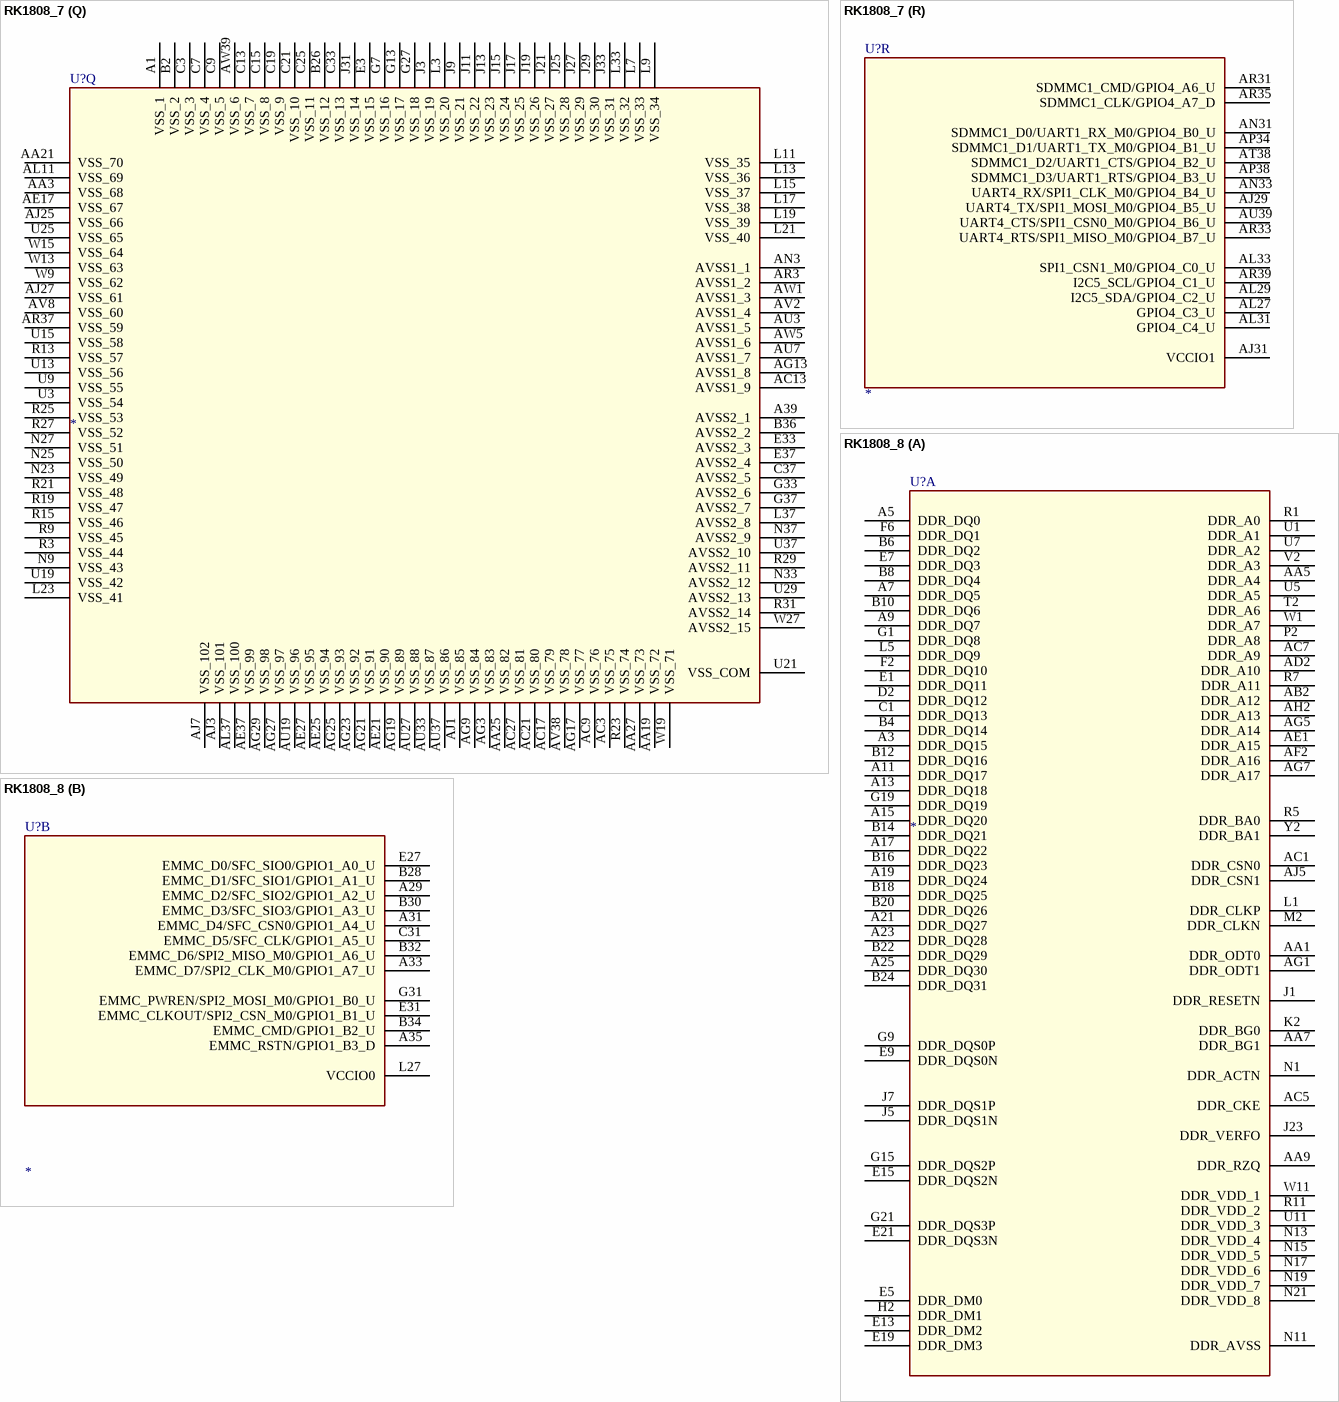
[diagram p282: symbols RK1808_7 to RK1808_8]